# Altium integrated library Renesas Microprocessor SuperH.IntLib: 433 symbols (part 1 of 62)
Pins are listed as number, name and electrical type; pins without a type are passive.

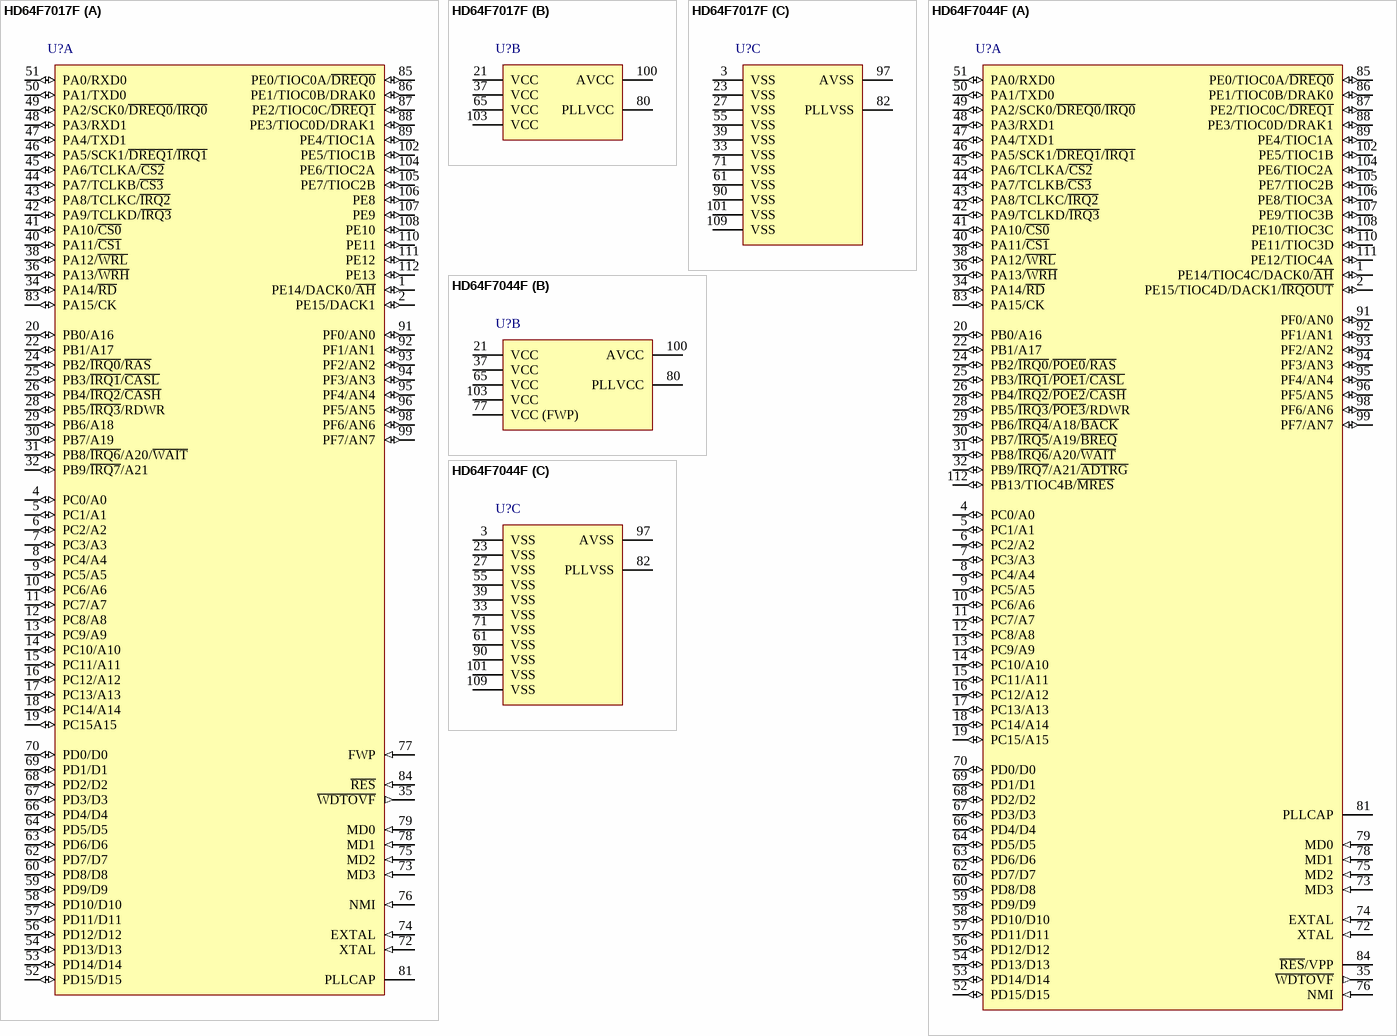
[diagram p0: symbols HD64F7017F to HD64F7044F]

## HD64F7017F
designator U?
32-Bit RISC Microcomputer, SH7010 Series, SH-2 core, 28.7MHz, 128K ROM, 4K(2K) RAM, PRQP0112JA-A (FP-112) Package, -20 to 75°C; Published: 28-Aug-2009; DatasheetVersion: Rev.5.00, Sep-2007; PackageVersion: Sep-2005; PackageReference: PRQP0112JA-A; Publisher: Altium Limited; PackageDescription: 112-Pin Plastic Quad Flat Pack, 20 x 20 x 2.7 mm Body, 0.65 mm Pitch; Code_JEITA: P-QFP112-20x20-0.65; ComponentLink1Description: Manufacturer Link; ComponentLink1URL: http://www.renesas.com/fmwk.jsp?cnt=sh7014_root.jsp&fp=/products/mpumcu/superh_family/sh7010_series/sh7014_group/; ComponentLink2Description: Datasheet; ComponentLink2URL: http://documentation.renesas.com/eng/products/mpumcu/rej09b0398_7014hm.pdf; ComponentLink3Description: Packaging Specification; ComponentLink3URL: http://sg.renesas.com/media/products/common_info/package/pdf/ic/code/prqp0112ja_a.pdf
footprint PRQP0112JA-A_N (QFP, 112-Leads, Body 20x20mm, Pitch 0.65mm, IPC Medium Density)
footprint PRQP0112JA-A_L (QFP, 112-Leads, Body 20x20mm, Pitch 0.65mm, IPC High Density)
footprint PRQP0112JA-A_M (QFP, 112-Leads, Body 20x20mm, Pitch 0.65mm, IPC Low Density)
part A pins: 1 PE14/DACK0/~{AH} (io), 2 PE15/DACK1 (io), 4 PC0/A0 (io), 5 PC1/A1 (io), 6 PC2/A2 (io), 7 PC3/A3 (io), 8 PC4/A4 (io), 9 PC5/A5 (io), 10 PC6/A6 (io), 11 PC7/A7 (io), 12 PC8/A8 (io), 13 PC9/A9 (io), 14 PC10/A10 (io), 15 PC11/A11 (io), 16 PC12/A12 (io), 17 PC13/A13 (io), 18 PC14/A14 (io), 19 PC15A15 (io), 20 PB0/A16 (io), 22 PB1/A17 (io), 24 PB2/~{IRQ0}/~{RAS} (io), 25 PB3/~{IRQ1}/~{CASL} (io), 26 PB4/~{IRQ2}/~{CASH} (io), 28 PB5/~{IRQ3}/RDWR (io), 29 PB6/A18 (io), 30 PB7/A19 (io), 31 PB8/~{IRQ6}/A20/~{WAIT} (io), 32 PB9/~{IRQ7}/A21 (io), 34 PA14/~{RD} (io), 35 ~{WDTOVF} (out), 36 PA13/~{WRH} (io), 38 PA12/~{WRL} (io), 40 PA11/~{CS1} (io), 41 PA10/~{CS0} (io), 42 PA9/TCLKD/~{IRQ3} (io), 43 PA8/TCLKC/~{IRQ2} (io), 44 PA7/TCLKB/~{CS3} (io), 45 PA6/TCLKA/~{CS2} (io), 46 PA5/SCK1/~{DREQ1}/~{IRQ1} (io), 47 PA4/TXD1 (io), 48 PA3/RXD1 (io), 49 PA2/SCK0/~{DREQ0}/~{IRQ0} (io), 50 PA1/TXD0 (io), 51 PA0/RXD0 (io), 52 PD15/D15 (io), 53 PD14/D14 (io), 54 PD13/D13 (io), 56 PD12/D12 (io), 57 PD11/D11 (io), 58 PD10/D10 (io), 59 PD9/D9 (io), 60 PD8/D8 (io), 62 PD7/D7 (io), 63 PD6/D6 (io), 64 PD5/D5 (io), 66 PD4/D4 (io), 67 PD3/D3 (io), 68 PD2/D2 (io), 69 PD1/D1 (io), 70 PD0/D0 (io), 72 XTAL (in), 73 MD3 (in), 74 EXTAL (in), 75 MD2 (in), 76 NMI (in), 77 FWP (in), 78 MD1 (in), 79 MD0 (in), 81 PLLCAP, 83 PA15/CK (io), 84 ~{RES} (in), 85 PE0/TIOC0A/~{DREQ0} (io), 86 PE1/TIOC0B/DRAK0 (io), 87 PE2/TIOC0C/~{DREQ1} (io), 88 PE3/TIOC0D/DRAK1 (io), 89 PE4/TIOC1A (io), 91 PF0/AN0 (io), 92 PF1/AN1 (io), 93 PF2/AN2 (io), 94 PF3/AN3 (io), 95 PF4/AN4 (io), 96 PF5/AN5 (io), 98 PF6/AN6 (io), 99 PF7/AN7 (io), 102 PE5/TIOC1B (io), 104 PE6/TIOC2A (io), 105 PE7/TIOC2B (io), 106 PE8 (io), 107 PE9 (io), 108 PE10 (io), 110 PE11 (io), 111 PE12 (io), 112 PE13 (io)
part B pins: 21 VCC (power), 37 VCC (power), 65 VCC (power), 80 PLLVCC (power), 100 AVCC (power), 103 VCC (power)
part C pins: 3 VSS (power), 23 VSS (power), 27 VSS (power), 33 VSS (power), 39 VSS (power), 55 VSS (power), 61 VSS (power), 71 VSS (power), 82 PLLVSS (power), 90 VSS (power), 97 AVSS (power), 101 VSS (power), 109 VSS (power)

## HD64F7044F
designator U?
32-Bit RISC Microcomputer, SH7040 Series, SH-2 core, 28.7MHz, 256K ROM, 4K(2K) RAM, PRQP0112JA-A (FP-112) Package; Published: 28-Aug-2009; DatasheetVersion: Rev.6.00, May-2003; PackageVersion: Sep-2005; PackageReference: PRQP0112JA-A; Publisher: Altium Limited; PackageDescription: 112-Pin Plastic Quad Flat Pack, 20 x 20 x 2.7 mm Body, 0.65 mm Pitch; Code_JEITA: P-QFP112-20x20-0.65; ComponentLink1Description: Manufacturer Link; ComponentLink1URL: http://www.renesas.com/fmwk.jsp?cnt=sh7040_root.jsp&fp=/products/mpumcu/superh_family/sh7040_series/sh7040_group/; ComponentLink2Description: Datasheet; ComponentLink2URL: http://documentation.renesas.com/eng/products/mpumcu/rej09b0044_sh7040.pdf; ComponentLink3Description: Packaging Specification; ComponentLink3URL: http://sg.renesas.com/media/products/common_info/package/pdf/ic/code/prqp0112ja_a.pdf
footprint PRQP0112JA-A_N (QFP, 112-Leads, Body 20x20mm, Pitch 0.65mm, IPC Medium Density)
footprint PRQP0112JA-A_L (QFP, 112-Leads, Body 20x20mm, Pitch 0.65mm, IPC High Density)
footprint PRQP0112JA-A_M (QFP, 112-Leads, Body 20x20mm, Pitch 0.65mm, IPC Low Density)
part A pins: 1 PE14/TIOC4C/DACK0/~{AH} (io), 2 PE15/TIOC4D/DACK1/~{IRQOUT} (io), 4 PC0/A0 (io), 5 PC1/A1 (io), 6 PC2/A2 (io), 7 PC3/A3 (io), 8 PC4/A4 (io), 9 PC5/A5 (io), 10 PC6/A6 (io), 11 PC7/A7 (io), 12 PC8/A8 (io), 13 PC9/A9 (io), 14 PC10/A10 (io), 15 PC11/A11 (io), 16 PC12/A12 (io), 17 PC13/A13 (io), 18 PC14/A14 (io), 19 PC15/A15 (io), 20 PB0/A16 (io), 22 PB1/A17 (io), 24 PB2/~{IRQ0}/~{POE0}/~{RAS} (io), 25 PB3/~{IRQ1}/~{POE1}/~{CASL} (io), 26 PB4/~{IRQ2}/~{POE2}/~{CASH} (io), 28 PB5/~{IRQ3}/~{POE3}/RDWR (io), 29 PB6/~{IRQ4}/A18/~{BACK} (io), 30 PB7/~{IRQ5}/A19/~{BREQ} (io), 31 PB8/~{IRQ6}/A20/~{WAIT} (io), 32 PB9/~{IRQ7}/A21/~{ADTRG} (io), 34 PA14/~{RD} (io), 35 ~{WDTOVF} (out), 36 PA13/~{WRH} (io), 38 PA12/~{WRL} (io), 40 PA11/~{CS1} (io), 41 PA10/~{CS0} (io), 42 PA9/TCLKD/~{IRQ3} (io), 43 PA8/TCLKC/~{IRQ2} (io), 44 PA7/TCLKB/~{CS3} (io), 45 PA6/TCLKA/~{CS2} (io), 46 PA5/SCK1/~{DREQ1}/~{IRQ1} (io), 47 PA4/TXD1 (io), 48 PA3/RXD1 (io), 49 PA2/SCK0/~{DREQ0}/~{IRQ0} (io), 50 PA1/TXD0 (io), 51 PA0/RXD0 (io), 52 PD15/D15 (io), 53 PD14/D14 (io), 54 PD13/D13 (io), 56 PD12/D12 (io), 57 PD11/D11 (io), 58 PD10/D10 (io), 59 PD9/D9 (io), 60 PD8/D8 (io), 62 PD7/D7 (io), 63 PD6/D6 (io), 64 PD5/D5 (io), 66 PD4/D4 (io), 67 PD3/D3 (io), 68 PD2/D2 (io), 69 PD1/D1 (io), 70 PD0/D0 (io), 72 XTAL (in), 73 MD3 (in), 74 EXTAL (in), 75 MD2 (in), 76 NMI (in), 78 MD1 (in), 79 MD0 (in), 81 PLLCAP, 83 PA15/CK (io), 84 ~{RES}/VPP, 85 PE0/TIOC0A/~{DREQ0} (io), 86 PE1/TIOC0B/DRAK0 (io), 87 PE2/TIOC0C/~{DREQ1} (io), 88 PE3/TIOC0D/DRAK1 (io), 89 PE4/TIOC1A (io), 91 PF0/AN0 (io), 92 PF1/AN1 (io), 93 PF2/AN2 (io), 94 PF3/AN3 (io), 95 PF4/AN4 (io), 96 PF5/AN5 (io), 98 PF6/AN6 (io), 99 PF7/AN7 (io), 102 PE5/TIOC1B (io), 104 PE6/TIOC2A (io), 105 PE7/TIOC2B (io), 106 PE8/TIOC3A (io), 107 PE9/TIOC3B (io), 108 PE10/TIOC3C (io), 110 PE11/TIOC3D (io), 111 PE12/TIOC4A (io), 112 PB13/TIOC4B/~{MRES} (io)
part B pins: 21 VCC (power), 37 VCC (power), 65 VCC (power), 77 VCC (FWP) (power), 80 PLLVCC (power), 100 AVCC (power), 103 VCC (power)
part C pins: 3 VSS (power), 23 VSS (power), 27 VSS (power), 33 VSS (power), 39 VSS (power), 55 VSS (power), 61 VSS (power), 71 VSS (power), 82 PLLVSS (power), 90 VSS (power), 97 AVSS (power), 101 VSS (power), 109 VSS (power)

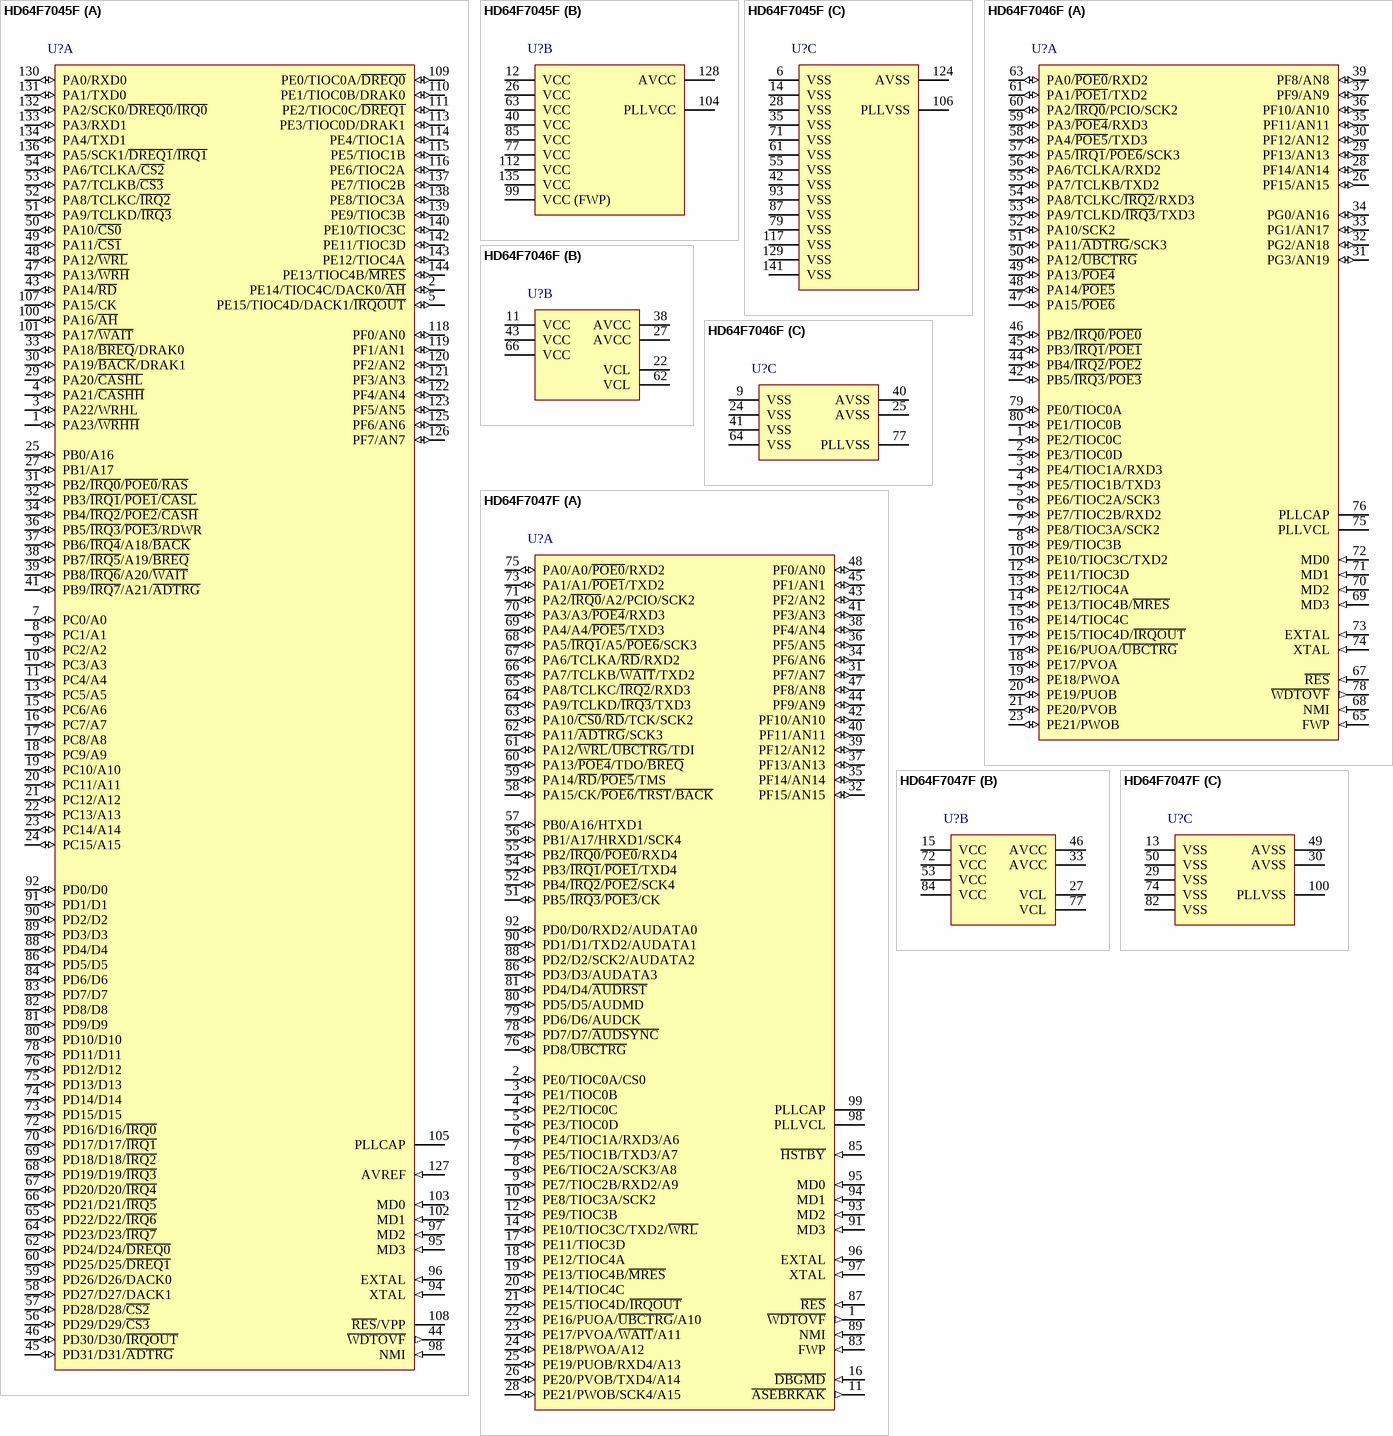
[diagram p1: symbols HD64F7045F to HD64F7047F]

## HD64F7045F
designator U?
32-Bit RISC Microcomputer, SH7040 Series, SH-2 core, 28.7MHz, 256K ROM, 4K(2K) RAM, FP-144 Package; Published: 28-Aug-2009; DatasheetVersion: Rev.6.00, May-2003; PackageVersion: Sep-2005; PackageReference: PRQP0144KB-A; Publisher: Altium Limited; PackageDescription: 144-Pin Plastic Quad Flat Pack, 20 x 20 x 2.7 mm Body, 0.5 mm Pitch; Code_JEITA: P-QFP144-20x20-0.50; ComponentLink1Description: Manufacturer Link; ComponentLink1URL: http://www.renesas.com/fmwk.jsp?cnt=sh7040_root.jsp&fp=/products/mpumcu/superh_family/sh7040_series/sh7040_group/; ComponentLink2Description: Datasheet; ComponentLink2URL: http://documentation.renesas.com/eng/products/mpumcu/rej09b0044_sh7040.pdf; ComponentLink3Description: Packaging Specification; ComponentLink3URL: http://sg.renesas.com/media/products/common_info/package/pdf/ic/code/prqp0144kb_a.pdf
footprint PRQP0144KB-A_N (Shrink QFP, 144-Leads, Body 20x20mm, Pitch 0.5mm, IPC Medium Density)
footprint PRQP0144KB-A_L (Shrink QFP, 144-Leads, Body 20x20mm, Pitch 0.5mm, IPC High Density)
footprint PRQP0144KB-A_M (Shrink QFP, 144-Leads, Body 20x20mm, Pitch 0.5mm, IPC Low Density)
part A pins: 1 PA23/~{WRHH} (io), 2 PE14/TIOC4C/DACK0/~{AH} (io), 3 PA22/WRHL (io), 4 PA21/~{CASHH} (io), 5 PE15/TIOC4D/DACK1/~{IRQOUT} (io), 7 PC0/A0 (io), 8 PC1/A1 (io), 9 PC2/A2 (io), 10 PC3/A3 (io), 11 PC4/A4 (io), 13 PC5/A5 (io), 15 PC6/A6 (io), 16 PC7/A7 (io), 17 PC8/A8 (io), 18 PC9/A9 (io), 19 PC10/A10 (io), 20 PC11/A11 (io), 21 PC12/A12 (io), 22 PC13/A13 (io), 23 PC14/A14 (io), 24 PC15/A15 (io), 25 PB0/A16 (io), 27 PB1/A17 (io), 29 PA20/~{CASHL} (io), 30 PA19/~{BACK}/DRAK1 (io), 31 PB2/~{IRQ0}/~{POE0}/~{RAS} (io), 32 PB3/~{IRQ1}/~{POE1}/~{CASL} (io), 33 PA18/~{BREQ}/DRAK0 (io), 34 PB4/~{IRQ2}/~{POE2}/~{CASH} (io), 36 PB5/~{IRQ3}/~{POE3}/RDWR (io), 37 PB6/~{IRQ4}/A18/~{BACK} (io), 38 PB7/~{IRQ5}/A19/~{BREQ} (io), 39 PB8/~{IRQ6}/A20/~{WAIT} (io), 41 PB9/~{IRQ7}/A21/~{ADTRG} (io), 43 PA14/~{RD} (io), 44 ~{WDTOVF} (out), 45 PD31/D31/~{ADTRG} (io), 46 PD30/D30/~{IRQOUT} (io), 47 PA13/~{WRH} (io), 48 PA12/~{WRL} (io), 49 PA11/~{CS1} (io), 50 PA10/~{CS0} (io), 51 PA9/TCLKD/~{IRQ3} (io), 52 PA8/TCLKC/~{IRQ2} (io), 53 PA7/TCLKB/~{CS3} (io), 54 PA6/TCLKA/~{CS2} (io), 56 PD29/D29/~{CS3} (io), 57 PD28/D28/~{CS2} (io), 58 PD27/D27/DACK1 (io), 59 PD26/D26/DACK0 (io), 60 PD25/D25/~{DREQ1} (io), 62 PD24/D24/~{DREQ0} (io), 64 PD23/D23/~{IRQ7} (io), 65 PD22/D22/~{IRQ6} (io), 66 PD21/D21/~{IRQ5} (io), 67 PD20/D20/~{IRQ4} (io), 68 PD19/D19/~{IRQ3} (io), 69 PD18/D18/~{IRQ2} (io), 70 PD17/D17/~{IRQ1} (io), 72 PD16/D16/~{IRQ0} (io), 73 PD15/D15 (io), 74 PD14/D14 (io), 75 PD13/D13 (io), 76 PD12/D12 (io), 78 PD11/D11 (io), 80 PD10/D10 (io), 81 PD9/D9 (io), 82 PD8/D8 (io), 83 PD7/D7 (io), 84 PD6/D6 (io), 86 PD5/D5 (io), 88 PD4/D4 (io), 89 PD3/D3 (io), 90 PD2/D2 (io), 91 PD1/D1 (io), 92 PD0/D0 (io), 94 XTAL (in), 95 MD3 (in), 96 EXTAL (in), 97 MD2 (in), 98 NMI (in), 100 PA16/~{AH} (io), 101 PA17/~{WAIT} (io), 102 MD1 (in), 103 MD0 (in), 105 PLLCAP, 107 PA15/CK (io), 108 ~{RES}/VPP, 109 PE0/TIOC0A/~{DREQ0} (io), 110 PE1/TIOC0B/DRAK0 (io), 111 PE2/TIOC0C/~{DREQ1} (io), 113 PE3/TIOC0D/DRAK1 (io), 114 PE4/TIOC1A (io), 115 PE5/TIOC1B (io), 116 PE6/TIOC2A (io), 118 PF0/AN0 (io), 119 PF1/AN1 (io), 120 PF2/AN2 (io), 121 PF3/AN3 (io), 122 PF4/AN4 (io), 123 PF5/AN5 (io), 125 PF6/AN6 (io), 126 PF7/AN7 (io), 127 AVREF (in), 130 PA0/RXD0 (io), 131 PA1/TXD0 (io), 132 PA2/SCK0/~{DREQ0}/~{IRQ0} (io), 133 PA3/RXD1 (io), 134 PA4/TXD1 (io), 136 PA5/SCK1/~{DREQ1}/~{IRQ1} (io), 137 PE7/TIOC2B (io), 138 PE8/TIOC3A (io), 139 PE9/TIOC3B (io), 140 PE10/TIOC3C (io), 142 PE11/TIOC3D (io), 143 PE12/TIOC4A (io), 144 PE13/TIOC4B/~{MRES} (io)
part B pins: 12 VCC (power), 26 VCC (power), 40 VCC (power), 63 VCC (power), 77 VCC (power), 85 VCC (power), 99 VCC (FWP) (power), 104 PLLVCC (power), 112 VCC (power), 128 AVCC (power), 135 VCC (power)
part C pins: 6 VSS (power), 14 VSS (power), 28 VSS (power), 35 VSS (power), 42 VSS (power), 55 VSS (power), 61 VSS (power), 71 VSS (power), 79 VSS (power), 87 VSS (power), 93 VSS (power), 106 PLLVSS (power), 117 VSS (power), 124 AVSS (power), 129 VSS (power), 141 VSS (power)

## HD64F7046F
designator U?
32-Bit RISC Microcomputer, SH7046 Series, SH-2 core, 50MHz, 256K ROM, 12K RAM, PRQP0080JD-A (FP-80Q) Package; Published: 28-Aug-2009; DatasheetVersion: Rev.4.00, Dec-2005; PackageVersion: Sep-2005; PackageReference: PRQP0080JD-A; Publisher: Altium Limited; PackageDescription: 80-Pin Plastic Quad Flat Pack, 14 x 14 x 2.7 mm Body, 0.65 mm Pitch; Code_JEITA: P-QFP80-14x14-0.65; Code_IPC: QFP65P1720X1720-80; ComponentLink1Description: Manufacturer Link; ComponentLink1URL: http://www.renesas.com/fmwk.jsp?cnt=sh7046_root.jsp&fp=/products/mpumcu/superh_family/sh7046_series/sh7046_group/; ComponentLink2Description: Datasheet; ComponentLink2URL: http://documentation.renesas.com/eng/products/mpumcu/rej09b0270_7046.pdf; ComponentLink3Description: Packaging Specification; ComponentLink3URL: http://sg.renesas.com/media/products/common_info/package/pdf/ic/code/prqp0080jd_a.pdf
footprint PRQP0080JD-A_N (QFP, 80-Leads, Body 14x14mm, Pitch 0.65mm, IPC Medium Density)
footprint PRQP0080JD-A_L (QFP, 80-Leads, Body 14x14mm, Pitch 0.65mm, IPC High Density)
footprint PRQP0080JD-A_M (QFP, 80-Leads, Body 14x14mm, Pitch 0.65mm, IPC Low Density)
part A pins: 1 PE2/TIOC0C (io), 2 PE3/TIOC0D (io), 3 PE4/TIOC1A/RXD3 (io), 4 PE5/TIOC1B/TXD3 (io), 5 PE6/TIOC2A/SCK3 (io), 6 PE7/TIOC2B/RXD2 (io), 7 PE8/TIOC3A/SCK2 (io), 8 PE9/TIOC3B (io), 10 PE10/TIOC3C/TXD2 (io), 12 PE11/TIOC3D (io), 13 PE12/TIOC4A (io), 14 PE13/TIOC4B/~{MRES} (io), 15 PE14/TIOC4C (io), 16 PE15/TIOC4D/~{IRQOUT} (io), 17 PE16/PUOA/~{UBCTRG} (io), 18 PE17/PVOA (io), 19 PE18/PWOA (io), 20 PE19/PUOB (io), 21 PE20/PVOB (io), 23 PE21/PWOB (io), 26 PF15/AN15 (io), 28 PF14/AN14 (io), 29 PF13/AN13 (io), 30 PF12/AN12 (io), 31 PG3/AN19 (io), 32 PG2/AN18 (io), 33 PG1/AN17 (io), 34 PG0/AN16 (io), 35 PF11/AN11 (io), 36 PF10/AN10 (io), 37 PF9/AN9 (io), 39 PF8/AN8 (io), 42 PB5/~{IRQ3}/~{POE3} (io), 44 PB4/~{IRQ2}/~{POE2} (io), 45 PB3/~{IRQ1}/~{POE1} (io), 46 PB2/~{IRQ0}/~{POE0} (io), 47 PA15/~{POE6} (io), 48 PA14/~{POE5} (io), 49 PA13/~{POE4} (io), 50 PA12/~{UBCTRG} (io), 51 PA11/~{ADTRG}/SCK3 (io), 52 PA10/SCK2 (io), 53 PA9/TCLKD/~{IRQ3}/TXD3 (io), 54 PA8/TCLKC/~{IRQ2}/RXD3 (io), 55 PA7/TCLKB/TXD2 (io), 56 PA6/TCLKA/RXD2 (io), 57 PA5/~{IRQ1}/~{POE6}/SCK3 (io), 58 PA4/~{POE5}/TXD3 (io), 59 PA3/~{POE4}/RXD3 (io), 60 PA2/~{IRQ0}/PCIO/SCK2 (io), 61 PA1/~{POE1}/TXD2 (io), 63 PA0/~{POE0}/RXD2 (io), 65 FWP (in), 67 ~{RES} (in), 68 NMI (in), 69 MD3 (in), 70 MD2 (in), 71 MD1 (in), 72 MD0 (in), 73 EXTAL (in), 74 XTAL (in), 75 PLLVCL, 76 PLLCAP, 78 ~{WDTOVF} (out), 79 PE0/TIOC0A (io), 80 PE1/TIOC0B (io)
part B pins: 11 VCC (power), 22 VCL, 27 AVCC (power), 38 AVCC (power), 43 VCC (power), 62 VCL, 66 VCC (power)
part C pins: 9 VSS (power), 24 VSS (power), 25 AVSS (power), 40 AVSS (power), 41 VSS (power), 64 VSS (power), 77 PLLVSS (power)

## HD64F7047F
designator U?
32-Bit RISC Microcomputer, SH7047 Series, SH-2 core, 50MHz, 256K ROM, 12K RAM, PRQP0100KB-A (FP-100M) Package; Published: 28-Aug-2009; DatasheetVersion: Rev.2.00, Sep-2004; PackageVersion: Sep-2009; PackageReference: PRQP0100KB-A; Publisher: Altium Limited; PackageDescription: 100-Pin Plastic Quad Flat Pack, 14 x 14 x 2.7 mm Body, 0.5 mm Pitch; Code_JEITA: P-QFP100-14x14-0.50; ComponentLink1Description: Manufacturer Link; ComponentLink1URL: http://www.renesas.com/fmwk.jsp?cnt=sh7047_root.jsp&fp=/products/mpumcu/superh_family/sh7047_series/sh7047_group/; ComponentLink2Description: Datasheet; ComponentLink2URL: http://documentation.renesas.com/eng/products/mpumcu/rej09b0020_sh7047.pdf; ComponentLink3Description: Packaging Specification; ComponentLink3URL: http://sg.renesas.com/media/products/common_info/package/pdf/ic/code/prqp0100kb_a.pdf
footprint PRQP0100KB-A_N (Shrink QFP, 100-Leads, Body 14x14mm, Pitch 0.5mm, IPC Medium Density)
footprint PRQP0100KB-A_L (Shrink QFP, 100-Leads, Body 14x14mm, Pitch 0.5mm, IPC High Density)
footprint PRQP0100KB-A_M (Shrink QFP, 100-Leads, Body 14x14mm, Pitch 0.5mm, IPC Low Density)
part A pins: 1 ~{WDTOVF} (out), 2 PE0/TIOC0A/CS0 (io), 3 PE1/TIOC0B (io), 4 PE2/TIOC0C (io), 5 PE3/TIOC0D (io), 6 PE4/TIOC1A/RXD3/A6 (io), 7 PE5/TIOC1B/TXD3/A7 (io), 8 PE6/TIOC2A/SCK3/A8 (io), 9 PE7/TIOC2B/RXD2/A9 (io), 10 PE8/TIOC3A/SCK2 (io), 11 ~{ASEBRKAK} (out), 12 PE9/TIOC3B (io), 14 PE10/TIOC3C/TXD2/~{WRL} (io), 16 ~{DBGMD} (in), 17 PE11/TIOC3D (io), 18 PE12/TIOC4A (io), 19 PE13/TIOC4B/~{MRES} (io), 20 PE14/TIOC4C (io), 21 PE15/TIOC4D/~{IRQOUT} (io), 22 PE16/PUOA/~{UBCTRG}/A10 (io), 23 PE17/PVOA/~{WAIT}/A11 (io), 24 PE18/PWOA/A12 (io), 25 PE19/PUOB/RXD4/A13 (io), 26 PE20/PVOB/TXD4/A14 (io), 28 PE21/PWOB/SCK4/A15 (io), 31 PF7/AN7 (io), 32 PF15/AN15 (io), 34 PF6/AN6 (io), 35 PF14/AN14 (io), 36 PF5/AN5 (io), 37 PF13/AN13 (io), 38 PF4/AN4 (io), 39 PF12/AN12 (io), 40 PF11/AN11 (io), 41 PF3/AN3 (io), 42 PF10/AN10 (io), 43 PF2/AN2 (io), 44 PF9/AN9 (io), 45 PF1/AN1 (io), 47 PF8/AN8 (io), 48 PF0/AN0 (io), 51 PB5/~{IRQ3}/~{POE3}/CK (io), 52 PB4/~{IRQ2}/~{POE2}/SCK4 (io), 54 PB3/~{IRQ1}/~{POE1}/TXD4 (io), 55 PB2/~{IRQ0}/~{POE0}/RXD4 (io), 56 PB1/A17/HRXD1/SCK4 (io), 57 PB0/A16/HTXD1 (io), 58 PA15/CK/~{POE6}/~{TRST}/~{BACK} (io), 59 PA14/~{RD}/~{POE5}/TMS (io), 60 PA13/~{POE4}/TDO/~{BREQ} (io), 61 PA12/~{WRL}/~{UBCTRG}/TDI (io), 62 PA11/~{ADTRG}/SCK3 (io), 63 PA10/~{CS0}/~{RD}/TCK/SCK2 (io), 64 PA9/TCLKD/~{IRQ3}/TXD3 (io), 65 PA8/TCLKC/~{IRQ2}/RXD3 (io), 66 PA7/TCLKB/~{WAIT}/TXD2 (io), 67 PA6/TCLKA/~{RD}/RXD2 (io), 68 PA5/~{IRQ1}/A5/~{POE6}/SCK3 (io), 69 PA4/A4/~{POE5}/TXD3 (io), 70 PA3/A3/~{POE4}/RXD3 (io), 71 PA2/~{IRQ0}/A2/PCIO/SCK2 (io), 73 PA1/A1/~{POE1}/TXD2 (io), 75 PA0/A0/~{POE0}/RXD2 (io), 76 PD8/~{UBCTRG} (io), 78 PD7/D7/~{AUDSYNC} (io), 79 PD6/D6/AUDCK (io), 80 PD5/D5/AUDMD (io), 81 PD4/D4/~{AUDRST} (io), 83 FWP (in), 85 ~{HSTBY} (in), 86 PD3/D3/AUDATA3 (io), 87 ~{RES} (in), 88 PD2/D2/SCK2/AUDATA2 (io), 89 NMI (in), 90 PD1/D1/TXD2/AUDATA1 (io), 91 MD3 (in), 92 PD0/D0/RXD2/AUDATA0 (io), 93 MD2 (in), 94 MD1 (in), 95 MD0 (in), 96 EXTAL (in), 97 XTAL (in), 98 PLLVCL, 99 PLLCAP
part B pins: 15 VCC (power), 27 VCL, 33 AVCC (power), 46 AVCC (power), 53 VCC (power), 72 VCC (power), 77 VCL, 84 VCC (power)
part C pins: 13 VSS (power), 29 VSS (power), 30 AVSS (power), 49 AVSS (power), 50 VSS (power), 74 VSS (power), 82 VSS (power), 100 PLLVSS (power)

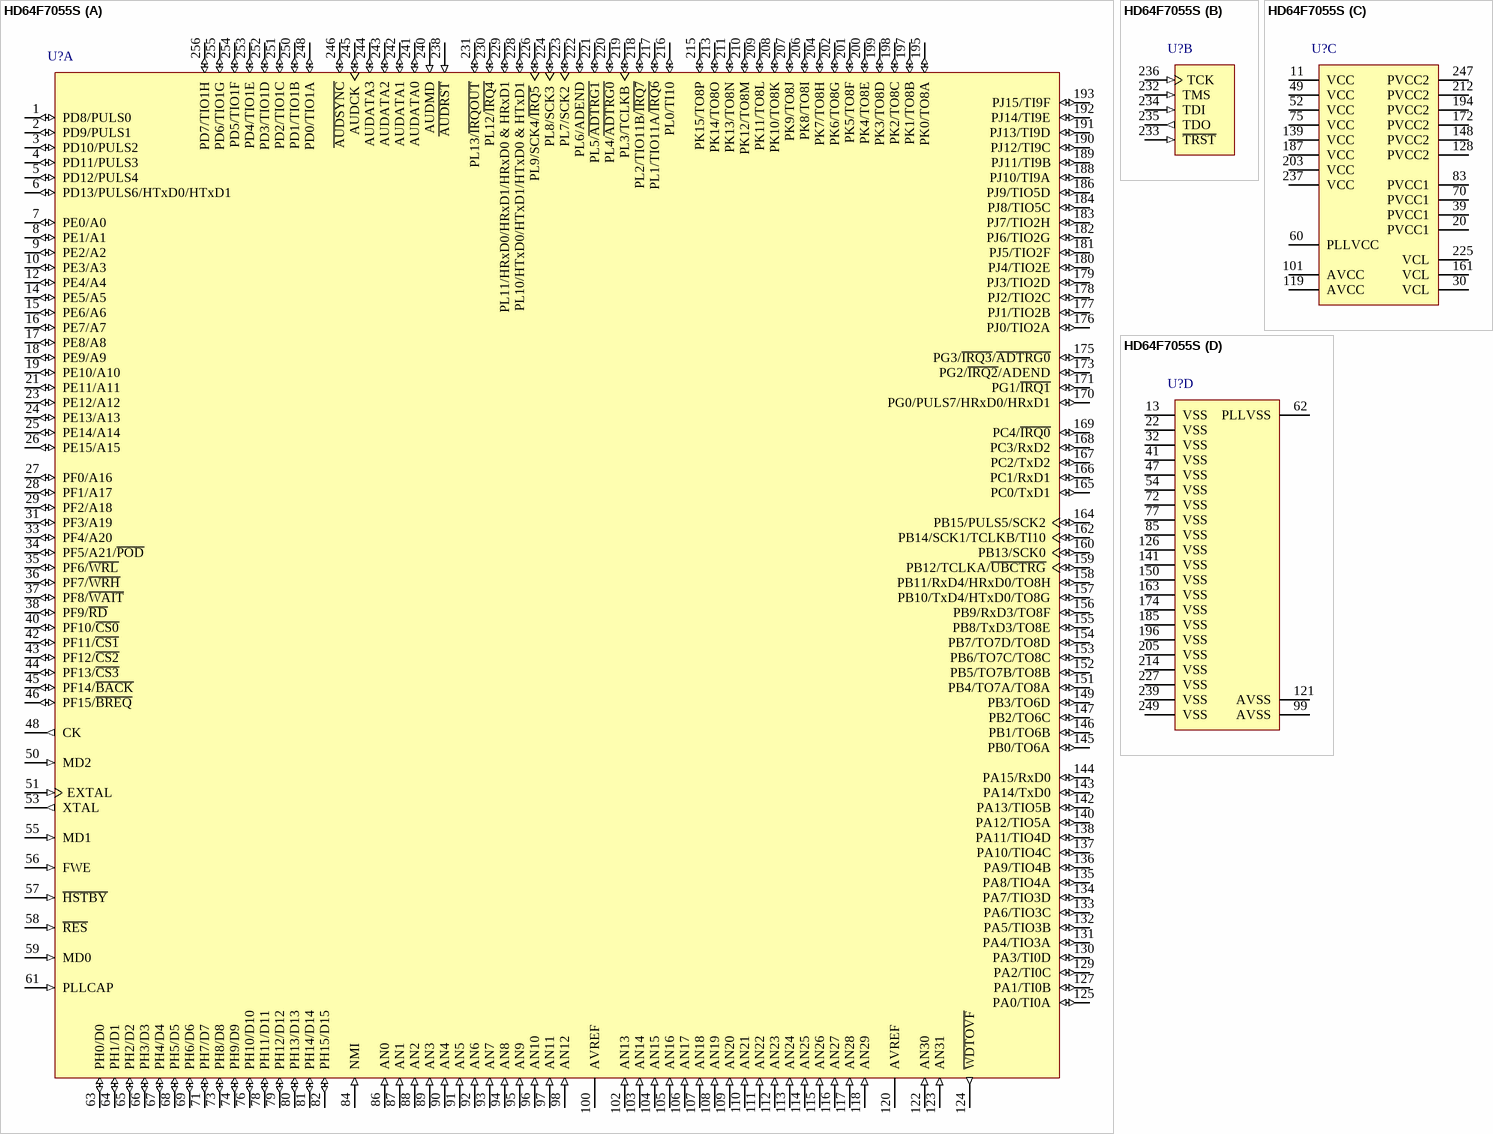
[diagram p2: symbol HD64F7055S]

## HD64F7055S
designator U?
32-Bit RISC Microcomputer, SH7050 Series, SH-2E core, 40MHz, 512K ROM, 32K RAM, 256-pin PQFP, -40 to 125°C; Published: 28-Aug-2009; DatasheetVersion: Rev.2.00, Jul-2003; PackageVersion: Sep-2005; PackageReference: PRQP0256KB-A; Publisher: Altium Limited; PackageDescription: 256-Pin Plastic Quad Flat Pack, 40 x 28 x 3.2 mm Body, 0.5 mm Pitch; Code_JEITA: P-QFP256-28x40-0.50; ComponentLink1Description: Manufacturer Link; ComponentLink1URL: http://www.renesas.com/fmwk.jsp?cnt=sh7055_root.jsp&fp=/products/mpumcu/superh_family/sh7050_series/sh7055_group/; ComponentLink2Description: Datasheet; ComponentLink2URL: http://documentation.renesas.com/eng/products/mpumcu/rej09b0045_sh7055s.pdf; ComponentLink3Description: Packaging Specification; ComponentLink3URL: http://sg.renesas.com/media/products/common_info/package/pdf/ic/code/prqp0256kb_a.pdf
footprint PRQP0256KB-A_N (Shrink QFP, 256-Leads, Body 40x28 mm, Pitch 0.5mm, IPC Medium Density)
footprint PRQP0256KB-A_L (Shrink QFP, 256-Leads, Body 40x28 mm, Pitch 0.5mm, IPC High Density)
footprint PRQP0256KB-A_M (Shrink QFP, 256-Leads, Body 40x28 mm, Pitch 0.5mm, IPC Low Density)
part A pins: 1 PD8/PULS0 (io), 2 PD9/PULS1 (io), 3 PD10/PULS2 (io), 4 PD11/PULS3 (io), 5 PD12/PULS4 (io), 6 PD13/PULS6/HTxD0/HTxD1 (io), 7 PE0/A0 (io), 8 PE1/A1 (io), 9 PE2/A2 (io), 10 PE3/A3 (io), 12 PE4/A4 (io), 14 PE5/A5 (io), 15 PE6/A6 (io), 16 PE7/A7 (io), 17 PE8/A8 (io), 18 PE9/A9 (io), 19 PE10/A10 (io), 21 PE11/A11 (io), 23 PE12/A12 (io), 24 PE13/A13 (io), 25 PE14/A14 (io), 26 PE15/A15 (io), 27 PF0/A16 (io), 28 PF1/A17 (io), 29 PF2/A18 (io), 31 PF3/A19 (io), 33 PF4/A20 (io), 34 PF5/A21/~{POD} (io), 35 PF6/~{WRL} (io), 36 PF7/~{WRH} (io), 37 PF8/~{WAIT} (io), 38 PF9/~{RD} (io), 40 PF10/~{CS0} (io), 42 PF11/~{CS1} (io), 43 PF12/~{CS2} (io), 44 PF13/~{CS3} (io), 45 PF14/~{BACK} (io), 46 PF15/~{BREQ} (io), 48 CK (out), 50 MD2 (in), 51 EXTAL (in), 53 XTAL (out), 55 MD1 (in), 56 FWE (in), 57 ~{HSTBY} (in), 58 ~{RES} (in), 59 MD0 (in), 61 PLLCAP (in), 63 PH0/D0 (io), 64 PH1/D1 (io), 65 PH2/D2 (io), 66 PH3/D3 (io), 67 PH4/D4 (io), 68 PH5/D5 (io), 69 PH6/D6 (io), 71 PH7/D7 (io), 73 PH8/D8 (io), 74 PH9/D9 (io), 76 PH10/D10 (io), 78 PH11/D11 (io), 79 PH12/D12 (io), 80 PH13/D13 (io), 81 PH14/D14 (io), 82 PH15/D15 (io), 84 NMI (in), 86 AN0 (in), 87 AN1 (in), 88 AN2 (in), 89 AN3 (in), 90 AN4 (in), 91 AN5 (in), 92 AN6 (in), 93 AN7 (in), 94 AN8 (in), 95 AN9 (in), 96 AN10 (in), 97 AN11 (in), 98 AN12 (in), 100 AVREF (power), 102 AN13 (in), 103 AN14 (in), 104 AN15 (in), 105 AN16 (in), 106 AN17 (in), 107 AN18 (in), 108 AN19 (in), 109 AN20 (in), 110 AN21 (in), 111 AN22 (in), 112 AN23 (in), 113 AN24 (in), 114 AN25 (in), 115 AN26 (in), 116 AN27 (in), 117 AN28 (in), 118 AN29 (in), 120 AVREF (power), 122 AN30 (in), 123 AN31 (in), 124 ~{WDTOVF} (out), 125 PA0/TI0A (io), 127 PA1/TI0B (io), 129 PA2/TI0C (io), 130 PA3/TI0D (io), 131 PA4/TIO3A (io), 132 PA5/TIO3B (io), 133 PA6/TIO3C (io), 134 PA7/TIO3D (io), 135 PA8/TIO4A (io), 136 PA9/TIO4B (io), 137 PA10/TIO4C (io), 138 PA11/TIO4D (io), 140 PA12/TIO5A (io), 142 PA13/TIO5B (io), 143 PA14/TxD0 (io), 144 PA15/RxD0 (io), 145 PB0/TO6A (io), 146 PB1/TO6B (io), 147 PB2/TO6C (io), 149 PB3/TO6D (io), 151 PB4/TO7A/TO8A (io), 152 PB5/TO7B/TO8B (io), 153 PB6/TO7C/TO8C (io), 154 PB7/TO7D/TO8D (io), 155 PB8/TxD3/TO8E (io), 156 PB9/RxD3/TO8F (io), 157 PB10/TxD4/HTxD0/TO8G (io), 158 PB11/RxD4/HRxD0/TO8H (io), 159 PB12/TCLKA/~{UBCTRG} (io), 160 PB13/SCK0 (io), 162 PB14/SCK1/TCLKB/TI10 (io), 164 PB15/PULS5/SCK2 (io), 165 PC0/TxD1 (io), 166 PC1/RxD1 (io), 167 PC2/TxD2 (io), 168 PC3/RxD2 (io), 169 PC4/~{IRQ0} (io), 170 PG0/PULS7/HRxD0/HRxD1 (io), 171 PG1/~{IRQ1} (io), 173 PG2/~{IRQ2}/ADEND (io), 175 PG3/~{IRQ3}/~{ADTRG0} (io), 176 PJ0/TIO2A (io), 177 PJ1/TIO2B (io), 178 PJ2/TIO2C (io), 179 PJ3/TIO2D (io), 180 PJ4/TIO2E (io), 181 PJ5/TIO2F (io), 182 PJ6/TIO2G (io), 183 PJ7/TIO2H (io), 184 PJ8/TIO5C (io), 186 PJ9/TIO5D (io), 188 PJ10/TI9A (io), 189 PJ11/TI9B (io), 190 PJ12/TI9C (io), 191 PJ13/TI9D (io), 192 PJ14/TI9E (io), 193 PJ15/TI9F (io), 195 PK0/TO8A (io), 197 PK1/TO8B (io), 198 PK2/TO8C (io), 199 PK3/TO8D (io), 200 PK4/TO8E (io), 201 PK5/TO8F (io), 202 PK6/TO8G (io), 204 PK7/TO8H (io), 206 PK8/TO8I (io), 207 PK9/TO8J (io), 208 PK10/TO8K (io), 209 PK11/TO8L (io), 210 PK12/TO8M (io), 211 PK13/TO8N (io), 213 PK14/TO8O (io), 215 PK15/TO8P (io), 216 PL0/TI10 (io), 217 PL1/TIO11A/~{IRQ6} (io), 218 PL2/TIO11B/~{IRQ7} (io), 219 PL3/TCLKB (io), 220 PL4/~{ADTRG0} (io), 221 PL5/~{ADTRG1} (io), 222 PL6/ADEND (io), 223 PL7/SCK2 (io), 224 PL8/SCK3 (io), 226 PL9/SCK4/~{IRQ5} (io), 228 PL10/HTxD0/HTxD1/HTxD0 & HTxD1 (io), 229 PL11/HRxD0/HRxD1/HRxD0 & HRxD1 (io), 230 PL12/~{IRQ4} (io), 231 PL13/~{IRQOUT} (io), 238 ~{AUDRST} (in), 240 AUDMD (in), 241 AUDATA0 (io), 242 AUDATA1 (io), 243 AUDATA2 (io), 244 AUDATA3 (io), 245 AUDCK (io), 246 ~{AUDSYNC} (io), 248 PD0/TIO1A (io), 250 PD1/TIO1B (io), 251 PD2/TIO1C (io), 252 PD3/TIO1D (io), 253 PD4/TIO1E (io), 254 PD5/TIO1F (io), 255 PD6/TIO1G (io), 256 PD7/TIO1H (io)
part B pins: 232 TMS (in), 233 ~{TRST} (in), 234 TDI (in), 235 TDO (out), 236 TCK (in)
part C pins: 11 VCC (power), 20 PVCC1 (power), 30 VCL (power), 39 PVCC1 (power), 49 VCC (power), 52 VCC (power), 60 PLLVCC (power), 70 PVCC1 (power), 75 VCC (power), 83 PVCC1 (power), 101 AVCC (power), 119 AVCC (power), 128 PVCC2 (power), 139 VCC (power), 148 PVCC2 (power), 161 VCL (power), 172 PVCC2 (power), 187 VCC (power), 194 PVCC2 (power), 203 VCC (power), 212 PVCC2 (power), 225 VCL (power), 237 VCC (power), 247 PVCC2 (power)
part D pins: 13 VSS (power), 22 VSS (power), 32 VSS (power), 41 VSS (power), 47 VSS (power), 54 VSS (power), 62 PLLVSS (power), 72 VSS (power), 77 VSS (power), 85 VSS (power), 99 AVSS (power), 121 AVSS (power), 126 VSS (power), 141 VSS (power), 150 VSS (power), 163 VSS (power), 174 VSS (power), 185 VSS (power), 196 VSS (power), 205 VSS (power), 214 VSS (power), 227 VSS (power), 239 VSS (power), 249 VSS (power)

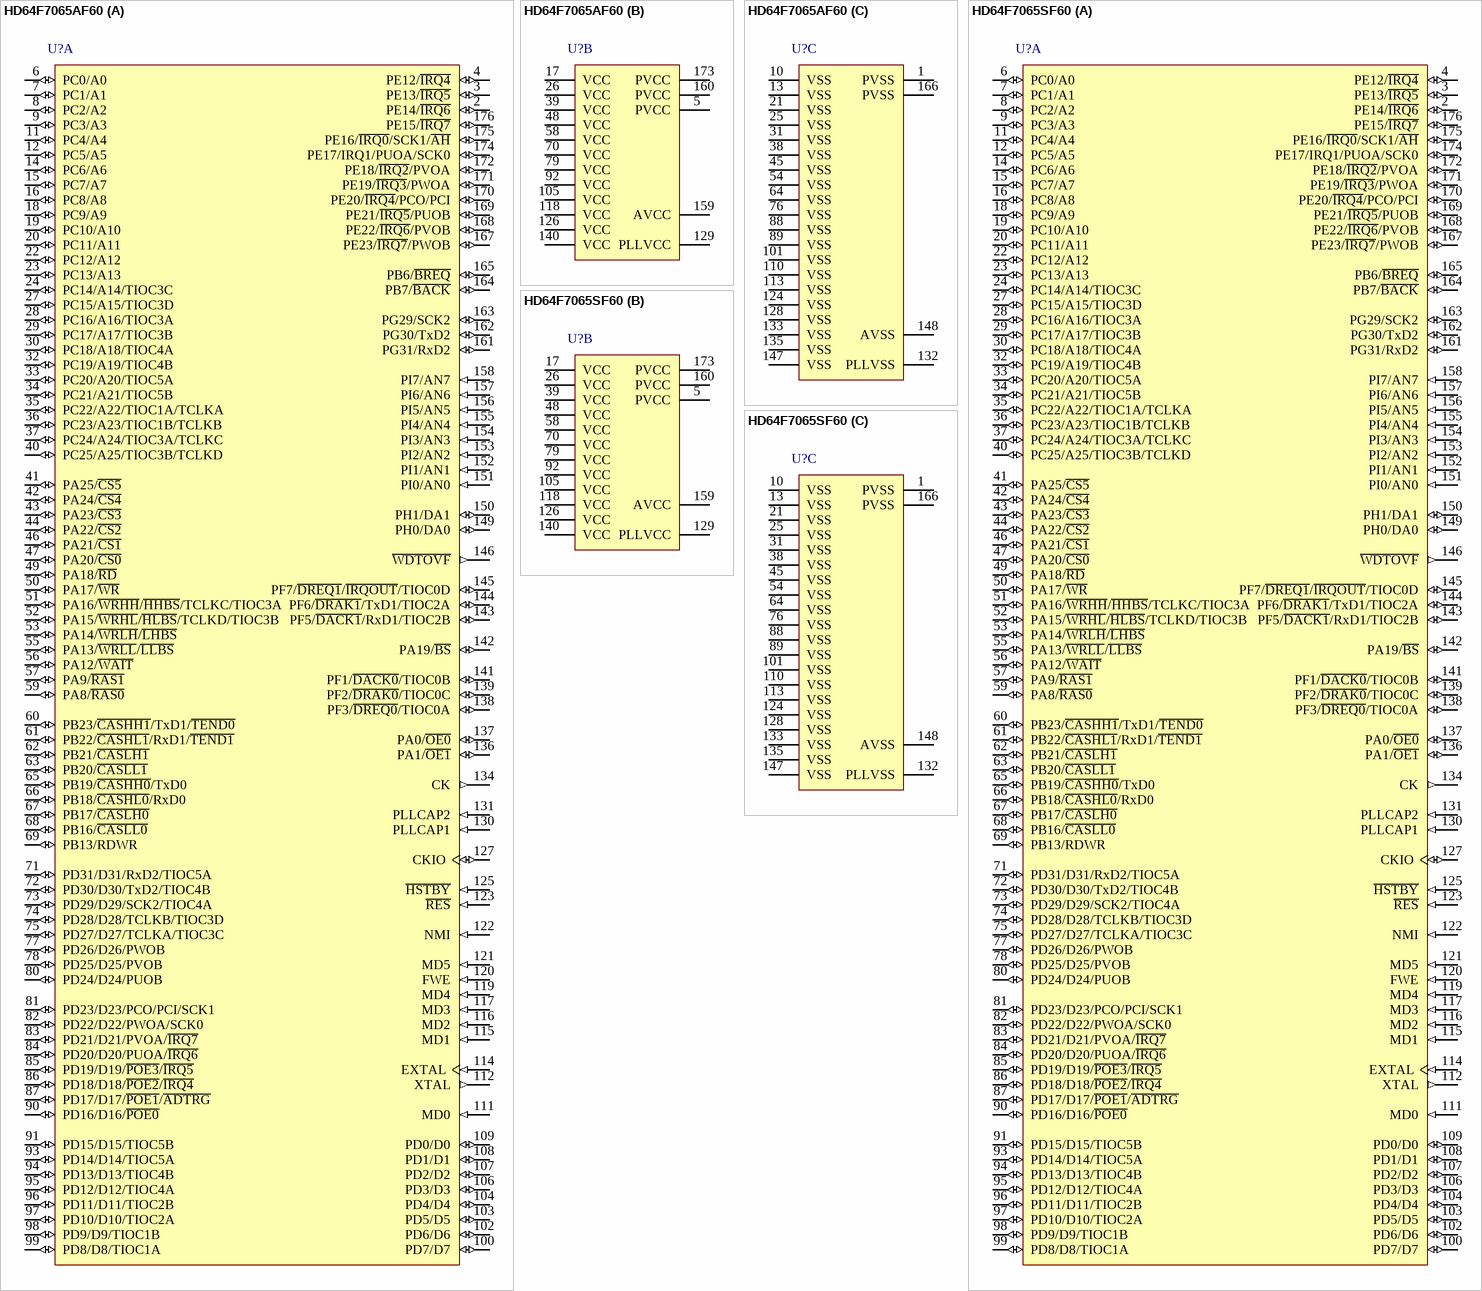
[diagram p3: symbols HD64F7065AF60 to HD64F7065SF60]

## HD64F7065AF60
designator U?
32-Bit RISC Microcomputer, SH7060 Series, SH2-DSP core, 60MHz, 256K ROM, 8K RAM, PLQP0176KC-A (FP-176) Package, -20 to 75°C; Published: 28-Aug-2009; DatasheetVersion: Rev.5.00, Sep-2006; PackageVersion: Sep-2005; PackageReference: PLQP0176KC-A; Publisher: Altium Limited; PackageDescription: 176-Pin Plastic Low Profile QFP, 24 x 24 x 1.4 mm Body, 0.5 mm Pitch; Supplier 1: Digi-Key; Supplier Part Number 1: HD64F7065AF60-ND; Code_JEITA: P-LQFP176-24x24-0.50; ComponentLink1Description: Manufacturer Link; ComponentLink1URL: http://www.renesas.com/fmwk.jsp?cnt=sh7065_root.jsp&fp=/products/mpumcu/superh_family/sh7060_series/sh7065_group/; ComponentLink2Description: Datasheet; ComponentLink2URL: http://documentation.renesas.com/eng/products/mpumcu/rej09b0332_sh7065hm.pdf; ComponentLink3Description: Packaging Specification; ComponentLink3URL: http://sg.renesas.com/media/products/common_info/package/pdf/ic/code/plqp0176kc_a.pdf
footprint PLQP0176KC-A_N (Shrink QFP, 176-Leads, Body 24x24mm, Pitch 0.5mm, IPC Medium Density)
footprint PLQP0176KC-A_L (Shrink QFP, 176-Leads, Body 24x24mm, Pitch 0.5mm, IPC High Density)
footprint PLQP0176KC-A_M (Shrink QFP, 176-Leads, Body 24x24mm, Pitch 0.5mm, IPC Low Density)
part A pins: 2 PE14/~{IRQ6} (io), 3 PE13/~{IRQ5} (io), 4 PE12/~{IRQ4} (io), 6 PC0/A0 (io), 7 PC1/A1 (io), 8 PC2/A2 (io), 9 PC3/A3 (io), 11 PC4/A4 (io), 12 PC5/A5 (io), 14 PC6/A6 (io), 15 PC7/A7 (io), 16 PC8/A8 (io), 18 PC9/A9 (io), 19 PC10/A10 (io), 20 PC11/A11 (io), 22 PC12/A12 (io), 23 PC13/A13 (io), 24 PC14/A14/TIOC3C (io), 27 PC15/A15/TIOC3D (io), 28 PC16/A16/TIOC3A (io), 29 PC17/A17/TIOC3B (io), 30 PC18/A18/TIOC4A (io), 32 PC19/A19/TIOC4B (io), 33 PC20/A20/TIOC5A (io), 34 PC21/A21/TIOC5B (io), 35 PC22/A22/TIOC1A/TCLKA (io), 36 PC23/A23/TIOC1B/TCLKB (io), 37 PC24/A24/TIOC3A/TCLKC (io), 40 PC25/A25/TIOC3B/TCLKD (io), 41 PA25/~{CS5} (io), 42 PA24/~{CS4} (io), 43 PA23/~{CS3} (io), 44 PA22/~{CS2} (io), 46 PA21/~{CS1} (io), 47 PA20/~{CS0} (io), 49 PA18/~{RD} (io), 50 PA17/~{WR} (io), 51 PA16/~{WRHH}/~{HHBS}/TCLKC/TIOC3A (io), 52 PA15/~{WRHL}/~{HLBS}/TCLKD/TIOC3B (io), 53 PA14/~{WRLH}/~{LHBS} (io), 55 PA13/~{WRLL}/~{LLBS} (io), 56 PA12/~{WAIT} (io), 57 PA9/~{RAS1} (io), 59 PA8/~{RAS0} (io), 60 PB23/~{CASHH1}/TxD1/~{TEND0} (io), 61 PB22/~{CASHL1}/RxD1/~{TEND1} (io), 62 PB21/~{CASLH1} (io), 63 PB20/~{CASLL1} (io), 65 PB19/~{CASHH0}/TxD0 (io), 66 PB18/~{CASHL0}/RxD0 (io), 67 PB17/~{CASLH0} (io), 68 PB16/~{CASLL0} (io), 69 PB13/RDWR (io), 71 PD31/D31/RxD2/TIOC5A (io), 72 PD30/D30/TxD2/TIOC4B (io), 73 PD29/D29/SCK2/TIOC4A (io), 74 PD28/D28/TCLKB/TIOC3D (io), 75 PD27/D27/TCLKA/TIOC3C (io), 77 PD26/D26/PWOB (io), 78 PD25/D25/PVOB (io), 80 PD24/D24/PUOB (io), 81 PD23/D23/PCO/PCI/SCK1 (io), 82 PD22/D22/PWOA/SCK0 (io), 83 PD21/D21/PVOA/~{IRQ7} (io), 84 PD20/D20/PUOA/~{IRQ6} (io), 85 PD19/D19/~{POE3}/~{IRQ5} (io), 86 PD18/D18/~{POE2}/~{IRQ4} (io), 87 PD17/D17/~{POE1}/~{ADTRG} (io), 90 PD16/D16/~{POE0} (io), 91 PD15/D15/TIOC5B (io), 93 PD14/D14/TIOC5A (io), 94 PD13/D13/TIOC4B (io), 95 PD12/D12/TIOC4A (io), 96 PD11/D11/TIOC2B (io), 97 PD10/D10/TIOC2A (io), 98 PD9/D9/TIOC1B (io), 99 PD8/D8/TIOC1A (io), 100 PD7/D7 (io), 102 PD6/D6 (io), 103 PD5/D5 (io), 104 PD4/D4 (io), 106 PD3/D3 (io), 107 PD2/D2 (io), 108 PD1/D1 (io), 109 PD0/D0 (io), 111 MD0 (in), 112 XTAL (out), 114 EXTAL (in), 115 MD1 (in), 116 MD2 (in), 117 MD3 (in), 119 MD4 (in), 120 FWE (in), 121 MD5 (in), 122 NMI (in), 123 ~{RES} (in), 125 ~{HSTBY} (in), 127 CKIO (io), 130 PLLCAP1 (in), 131 PLLCAP2 (in), 134 CK (out), 136 PA1/~{OE1} (io), 137 PA0/~{OE0} (io), 138 PF3/~{DREQ0}/TIOC0A (io), 139 PF2/~{DRAK0}/TIOC0C (io), 141 PF1/~{DACK0}/TIOC0B (io), 142 PA19/~{BS} (io), 143 PF5/~{DACK1}/RxD1/TIOC2B (io), 144 PF6/~{DRAK1}/TxD1/TIOC2A (io), 145 PF7/~{DREQ1}/~{IRQOUT}/TIOC0D (io), 146 ~{WDTOVF} (out), 149 PH0/DA0 (io), 150 PH1/DA1 (io), 151 PI0/AN0 (in), 152 PI1/AN1 (in), 153 PI2/AN2 (in), 154 PI3/AN3 (in), 155 PI4/AN4 (in), 156 PI5/AN5 (in), 157 PI6/AN6 (in), 158 PI7/AN7 (in), 161 PG31/RxD2 (io), 162 PG30/TxD2 (io), 163 PG29/SCK2 (io), 164 PB7/~{BACK} (io), 165 PB6/~{BREQ} (io), 167 PE23/~{IRQ7}/PWOB (io), 168 PE22/~{IRQ6}/PVOB (io), 169 PE21/~{IRQ5}/PUOB (io), 170 PE20/~{IRQ4}/PCO/PCI (io), 171 PE19/~{IRQ3}/PWOA (io), 172 PE18/~{IRQ2}/PVOA (io), 174 PE17/IRQ1/PUOA/SCK0 (io), 175 PE16/~{IRQ0}/SCK1/~{AH} (io), 176 PE15/~{IRQ7} (io)
part B pins: 5 PVCC (power), 17 VCC (power), 26 VCC (power), 39 VCC (power), 48 VCC (power), 58 VCC (power), 70 VCC (power), 79 VCC (power), 92 VCC (power), 105 VCC (power), 118 VCC (power), 126 VCC (power), 129 PLLVCC (power), 140 VCC (power), 159 AVCC (power), 160 PVCC (power), 173 PVCC (power)
part C pins: 1 PVSS (power), 10 VSS (power), 13 VSS (power), 21 VSS (power), 25 VSS (power), 31 VSS (power), 38 VSS (power), 45 VSS (power), 54 VSS (power), 64 VSS (power), 76 VSS (power), 88 VSS (power), 89 VSS (power), 101 VSS (power), 110 VSS (power), 113 VSS (power), 124 VSS (power), 128 VSS (power), 132 PLLVSS (power), 133 VSS (power), 135 VSS (power), 147 VSS (power), 148 AVSS (power), 166 PVSS (power)

## HD64F7065SF60
designator U?
32-Bit RISC Microcomputer, SH7060 Series, SH2-DSP core, 60MHz, 256K ROM, 8K RAM, PLQP0176KC-A (FP-176) Package, -20 to 75°C; Published: 28-Aug-2009; DatasheetVersion: Rev.5.00, Sep-2006; PackageVersion: Sep-2005; PackageReference: PLQP0176KC-A; Publisher: Altium Limited; PackageDescription: 176-Pin Plastic Low Profile QFP, 24 x 24 x 1.4 mm Body, 0.5 mm Pitch; Code_JEITA: P-LQFP176-24x24-0.50; ComponentLink1Description: Manufacturer Link; ComponentLink1URL: http://www.renesas.com/fmwk.jsp?cnt=sh7065_root.jsp&fp=/products/mpumcu/superh_family/sh7060_series/sh7065_group/; ComponentLink2Description: Datasheet; ComponentLink2URL: http://documentation.renesas.com/eng/products/mpumcu/rej09b0332_sh7065hm.pdf; ComponentLink3Description: Packaging Specification; ComponentLink3URL: http://sg.renesas.com/media/products/common_info/package/pdf/ic/code/plqp0176kc_a.pdf
footprint PLQP0176KC-A_N (Shrink QFP, 176-Leads, Body 24x24mm, Pitch 0.5mm, IPC Medium Density)
footprint PLQP0176KC-A_L (Shrink QFP, 176-Leads, Body 24x24mm, Pitch 0.5mm, IPC High Density)
footprint PLQP0176KC-A_M (Shrink QFP, 176-Leads, Body 24x24mm, Pitch 0.5mm, IPC Low Density)
part A pins: 2 PE14/~{IRQ6} (io), 3 PE13/~{IRQ5} (io), 4 PE12/~{IRQ4} (io), 6 PC0/A0 (io), 7 PC1/A1 (io), 8 PC2/A2 (io), 9 PC3/A3 (io), 11 PC4/A4 (io), 12 PC5/A5 (io), 14 PC6/A6 (io), 15 PC7/A7 (io), 16 PC8/A8 (io), 18 PC9/A9 (io), 19 PC10/A10 (io), 20 PC11/A11 (io), 22 PC12/A12 (io), 23 PC13/A13 (io), 24 PC14/A14/TIOC3C (io), 27 PC15/A15/TIOC3D (io), 28 PC16/A16/TIOC3A (io), 29 PC17/A17/TIOC3B (io), 30 PC18/A18/TIOC4A (io), 32 PC19/A19/TIOC4B (io), 33 PC20/A20/TIOC5A (io), 34 PC21/A21/TIOC5B (io), 35 PC22/A22/TIOC1A/TCLKA (io), 36 PC23/A23/TIOC1B/TCLKB (io), 37 PC24/A24/TIOC3A/TCLKC (io), 40 PC25/A25/TIOC3B/TCLKD (io), 41 PA25/~{CS5} (io), 42 PA24/~{CS4} (io), 43 PA23/~{CS3} (io), 44 PA22/~{CS2} (io), 46 PA21/~{CS1} (io), 47 PA20/~{CS0} (io), 49 PA18/~{RD} (io), 50 PA17/~{WR} (io), 51 PA16/~{WRHH}/~{HHBS}/TCLKC/TIOC3A (io), 52 PA15/~{WRHL}/~{HLBS}/TCLKD/TIOC3B (io), 53 PA14/~{WRLH}/~{LHBS} (io), 55 PA13/~{WRLL}/~{LLBS} (io), 56 PA12/~{WAIT} (io), 57 PA9/~{RAS1} (io), 59 PA8/~{RAS0} (io), 60 PB23/~{CASHH1}/TxD1/~{TEND0} (io), 61 PB22/~{CASHL1}/RxD1/~{TEND1} (io), 62 PB21/~{CASLH1} (io), 63 PB20/~{CASLL1} (io), 65 PB19/~{CASHH0}/TxD0 (io), 66 PB18/~{CASHL0}/RxD0 (io), 67 PB17/~{CASLH0} (io), 68 PB16/~{CASLL0} (io), 69 PB13/RDWR (io), 71 PD31/D31/RxD2/TIOC5A (io), 72 PD30/D30/TxD2/TIOC4B (io), 73 PD29/D29/SCK2/TIOC4A (io), 74 PD28/D28/TCLKB/TIOC3D (io), 75 PD27/D27/TCLKA/TIOC3C (io), 77 PD26/D26/PWOB (io), 78 PD25/D25/PVOB (io), 80 PD24/D24/PUOB (io), 81 PD23/D23/PCO/PCI/SCK1 (io), 82 PD22/D22/PWOA/SCK0 (io), 83 PD21/D21/PVOA/~{IRQ7} (io), 84 PD20/D20/PUOA/~{IRQ6} (io), 85 PD19/D19/~{POE3}/~{IRQ5} (io), 86 PD18/D18/~{POE2}/~{IRQ4} (io), 87 PD17/D17/~{POE1}/~{ADTRG} (io), 90 PD16/D16/~{POE0} (io), 91 PD15/D15/TIOC5B (io), 93 PD14/D14/TIOC5A (io), 94 PD13/D13/TIOC4B (io), 95 PD12/D12/TIOC4A (io), 96 PD11/D11/TIOC2B (io), 97 PD10/D10/TIOC2A (io), 98 PD9/D9/TIOC1B (io), 99 PD8/D8/TIOC1A (io), 100 PD7/D7 (io), 102 PD6/D6 (io), 103 PD5/D5 (io), 104 PD4/D4 (io), 106 PD3/D3 (io), 107 PD2/D2 (io), 108 PD1/D1 (io), 109 PD0/D0 (io), 111 MD0 (in), 112 XTAL (out), 114 EXTAL (in), 115 MD1 (in), 116 MD2 (in), 117 MD3 (in), 119 MD4 (in), 120 FWE (in), 121 MD5 (in), 122 NMI (in), 123 ~{RES} (in), 125 ~{HSTBY} (in), 127 CKIO (io), 130 PLLCAP1 (in), 131 PLLCAP2 (in), 134 CK (out), 136 PA1/~{OE1} (io), 137 PA0/~{OE0} (io), 138 PF3/~{DREQ0}/TIOC0A (io), 139 PF2/~{DRAK0}/TIOC0C (io), 141 PF1/~{DACK0}/TIOC0B (io), 142 PA19/~{BS} (io), 143 PF5/~{DACK1}/RxD1/TIOC2B (io), 144 PF6/~{DRAK1}/TxD1/TIOC2A (io), 145 PF7/~{DREQ1}/~{IRQOUT}/TIOC0D (io), 146 ~{WDTOVF} (out), 149 PH0/DA0 (io), 150 PH1/DA1 (io), 151 PI0/AN0 (in), 152 PI1/AN1 (in), 153 PI2/AN2 (in), 154 PI3/AN3 (in), 155 PI4/AN4 (in), 156 PI5/AN5 (in), 157 PI6/AN6 (in), 158 PI7/AN7 (in), 161 PG31/RxD2 (io), 162 PG30/TxD2 (io), 163 PG29/SCK2 (io), 164 PB7/~{BACK} (io), 165 PB6/~{BREQ} (io), 167 PE23/~{IRQ7}/PWOB (io), 168 PE22/~{IRQ6}/PVOB (io), 169 PE21/~{IRQ5}/PUOB (io), 170 PE20/~{IRQ4}/PCO/PCI (io), 171 PE19/~{IRQ3}/PWOA (io), 172 PE18/~{IRQ2}/PVOA (io), 174 PE17/IRQ1/PUOA/SCK0 (io), 175 PE16/~{IRQ0}/SCK1/~{AH} (io), 176 PE15/~{IRQ7} (io)
part B pins: 5 PVCC (power), 17 VCC (power), 26 VCC (power), 39 VCC (power), 48 VCC (power), 58 VCC (power), 70 VCC (power), 79 VCC (power), 92 VCC (power), 105 VCC (power), 118 VCC (power), 126 VCC (power), 129 PLLVCC (power), 140 VCC (power), 159 AVCC (power), 160 PVCC (power), 173 PVCC (power)
part C pins: 1 PVSS (power), 10 VSS (power), 13 VSS (power), 21 VSS (power), 25 VSS (power), 31 VSS (power), 38 VSS (power), 45 VSS (power), 54 VSS (power), 64 VSS (power), 76 VSS (power), 88 VSS (power), 89 VSS (power), 101 VSS (power), 110 VSS (power), 113 VSS (power), 124 VSS (power), 128 VSS (power), 132 PLLVSS (power), 133 VSS (power), 135 VSS (power), 147 VSS (power), 148 AVSS (power), 166 PVSS (power)

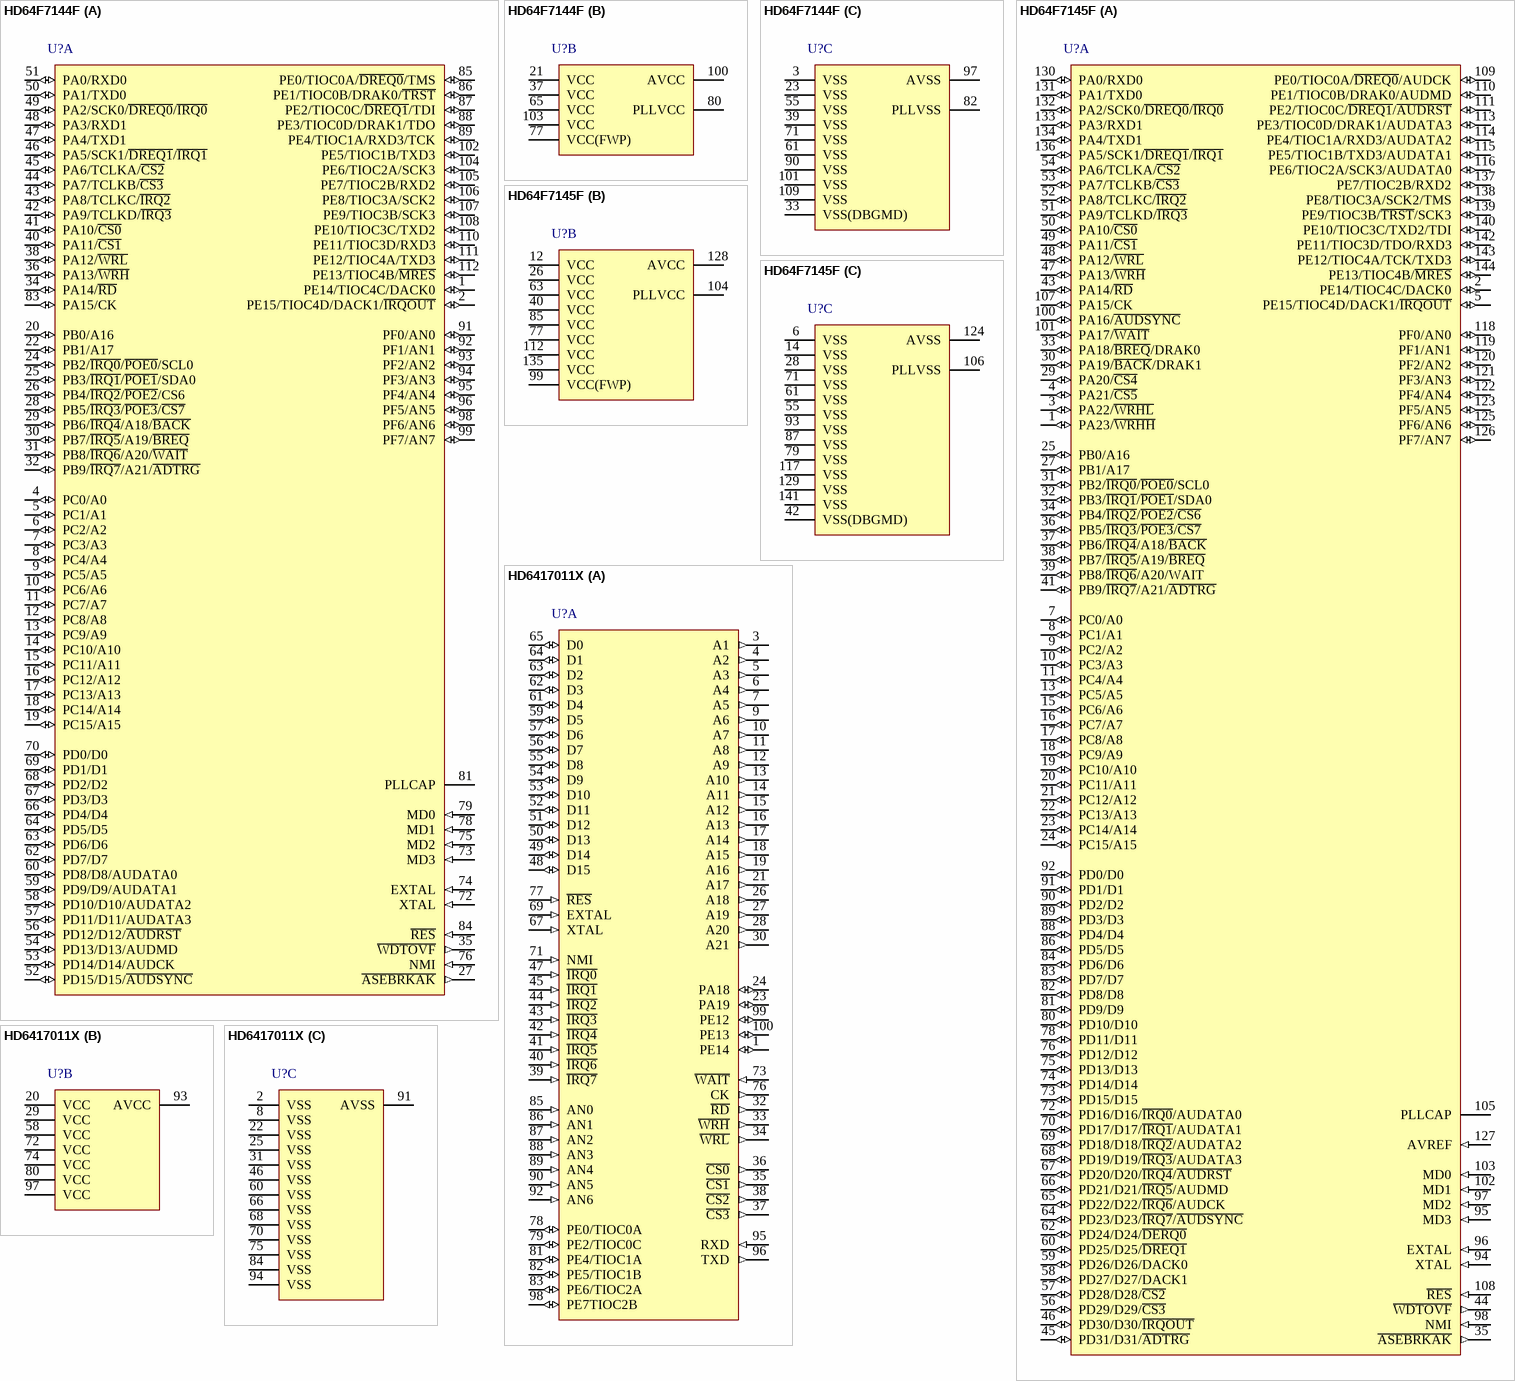
[diagram p4: symbols HD64F7144F to HD6417011X]

## HD64F7144F
designator U?
32-Bit RISC Microcomputer, SH7144 Series, SH-2 core, 50MHz, 256K ROM, 8K RAM, PRQP0112JB-A (FP-112B) Package, -20 to 75/-40 to 85°C; Published: 28-Aug-2009; DatasheetVersion: Rev.4.00, Mar-2008; PackageVersion: Sep-2005; PackageReference: PRQP0112JB-A; Publisher: Altium Limited; PackageDescription: 112-Pin Plastic Quad Flat Pack, 20 x 20 x 2.7 mm Body, 0.65 mm Pitch; Code_JEITA: P-QFP112-20x20-0.65; ComponentLink1Description: Manufacturer Link; ComponentLink1URL: http://www.renesas.com/fmwk.jsp?cnt=sh7144_root.jsp&fp=/products/mpumcu/superh_family/sh7144_series/sh7144_group/; ComponentLink2Description: Datasheet; ComponentLink2URL: http://documentation.renesas.com/eng/products/mpumcu/rej09b0108_sh7144.pdf; ComponentLink3Description: Packaging Specification; ComponentLink3URL: http://sg.renesas.com/media/products/common_info/package/pdf/ic/code/prqp0112jb_a.pdf
footprint PRQP0112JB-A_N (QFP, 112-Leads, Body 20x20mm, Pitch 0.65mm, IPC Medium Density)
footprint PRQP0112JB-A_L (QFP, 112-Leads, Body 20x20mm, Pitch 0.65mm, IPC High Density)
footprint PRQP0112JB-A_M (QFP, 112-Leads, Body 20x20mm, Pitch 0.65mm, IPC Low Density)
part A pins: 1 PE14/TIOC4C/DACK0 (io), 2 PE15/TIOC4D/DACK1/~{IRQOUT} (io), 4 PC0/A0 (io), 5 PC1/A1 (io), 6 PC2/A2 (io), 7 PC3/A3 (io), 8 PC4/A4 (io), 9 PC5/A5 (io), 10 PC6/A6 (io), 11 PC7/A7 (io), 12 PC8/A8 (io), 13 PC9/A9 (io), 14 PC10/A10 (io), 15 PC11/A11 (io), 16 PC12/A12 (io), 17 PC13/A13 (io), 18 PC14/A14 (io), 19 PC15/A15 (io), 20 PB0/A16 (io), 22 PB1/A17 (io), 24 PB2/~{IRQ0}/~{POE0}/SCL0 (io), 25 PB3/~{IRQ1}/~{POE1}/SDA0 (io), 26 PB4/~{IRQ2}/~{POE2}/CS6 (io), 27 ~{ASEBRKAK} (out), 28 PB5/~{IRQ3}/~{POE3}/~{CS7} (io), 29 PB6/~{IRQ4}/A18/~{BACK} (io), 30 PB7/~{IRQ5}/A19/~{BREQ} (io), 31 PB8/~{IRQ6}/A20/~{WAIT} (io), 32 PB9/~{IRQ7}/A21/~{ADTRG} (io), 34 PA14/~{RD} (io), 35 ~{WDTOVF} (out), 36 PA13/~{WRH} (io), 38 PA12/~{WRL} (io), 40 PA11/~{CS1} (io), 41 PA10/~{CS0} (io), 42 PA9/TCLKD/~{IRQ3} (io), 43 PA8/TCLKC/~{IRQ2} (io), 44 PA7/TCLKB/~{CS3} (io), 45 PA6/TCLKA/~{CS2} (io), 46 PA5/SCK1/~{DREQ1}/~{IRQ1} (io), 47 PA4/TXD1 (io), 48 PA3/RXD1 (io), 49 PA2/SCK0/~{DREQ0}/~{IRQ0} (io), 50 PA1/TXD0 (io), 51 PA0/RXD0 (io), 52 PD15/D15/~{AUDSYNC} (io), 53 PD14/D14/AUDCK (io), 54 PD13/D13/AUDMD (io), 56 PD12/D12/~{AUDRST} (io), 57 PD11/D11/AUDATA3 (io), 58 PD10/D10/AUDATA2 (io), 59 PD9/D9/AUDATA1 (io), 60 PD8/D8/AUDATA0 (io), 62 PD7/D7 (io), 63 PD6/D6 (io), 64 PD5/D5 (io), 66 PD4/D4 (io), 67 PD3/D3 (io), 68 PD2/D2 (io), 69 PD1/D1 (io), 70 PD0/D0 (io), 72 XTAL (in), 73 MD3 (in), 74 EXTAL (in), 75 MD2 (in), 76 NMI (in), 78 MD1 (in), 79 MD0 (in), 81 PLLCAP, 83 PA15/CK (io), 84 ~{RES} (in), 85 PE0/TIOC0A/~{DREQ0}/TMS (io), 86 PE1/TIOC0B/DRAK0/~{TRST} (io), 87 PE2/TIOC0C/~{DREQ1}/TDI (io), 88 PE3/TIOC0D/DRAK1/TDO (io), 89 PE4/TIOC1A/RXD3/TCK (io), 91 PF0/AN0 (io), 92 PF1/AN1 (io), 93 PF2/AN2 (io), 94 PF3/AN3 (io), 95 PF4/AN4 (io), 96 PF5/AN5 (io), 98 PF6/AN6 (io), 99 PF7/AN7 (io), 102 PE5/TIOC1B/TXD3 (io), 104 PE6/TIOC2A/SCK3 (io), 105 PE7/TIOC2B/RXD2 (io), 106 PE8/TIOC3A/SCK2 (io), 107 PE9/TIOC3B/SCK3 (io), 108 PE10/TIOC3C/TXD2 (io), 110 PE11/TIOC3D/RXD3 (io), 111 PE12/TIOC4A/TXD3 (io), 112 PE13/TIOC4B/~{MRES} (io)
part B pins: 21 VCC (power), 37 VCC (power), 65 VCC (power), 77 VCC(FWP) (power), 80 PLLVCC (power), 100 AVCC (power), 103 VCC (power)
part C pins: 3 VSS (power), 23 VSS (power), 33 VSS(DBGMD) (power), 39 VSS (power), 55 VSS (power), 61 VSS (power), 71 VSS (power), 82 PLLVSS (power), 90 VSS (power), 97 AVSS (power), 101 VSS (power), 109 VSS (power)

## HD64F7145F
designator U?
32-Bit RISC Microcomputer, SH7144 Series, SH-2 core, 50MHz, 256K ROM, 8K RAM, PLQP0144KB-A (FP-144F) Package, -20 to 75/-40 to 85°C; Published: 28-Aug-2009; DatasheetVersion: Rev.4.00, Mar-2008; PackageVersion: Sep-2005; PackageReference: PLQP0144KB-A; Publisher: Altium Limited; PackageDescription: 144-Pin Plastic Low Profile QFP, 20 x 20 x 1.4 mm Body, 0.5 mm Pitch; Code_JEITA: P-LQFP144-20x20-0.50; Code_IPC: SQFP50P2200X2200-144; ComponentLink1Description: Manufacturer Link; ComponentLink1URL: http://www.renesas.com/fmwk.jsp?cnt=sh7144_root.jsp&fp=/products/mpumcu/superh_family/sh7144_series/sh7144_group/; ComponentLink2Description: Datasheet; ComponentLink2URL: http://documentation.renesas.com/eng/products/mpumcu/rej09b0108_sh7144.pdf; ComponentLink3Description: Packaging Specification; ComponentLink3URL: http://sg.renesas.com/media/products/common_info/package/pdf/ic/code/plqp0144kb_a.pdf
footprint PLQP0144KB-A_N (Shrink QFP, 144-Leads, Body 20x20mm, Pitch 0.5mm, IPC Medium Density)
footprint PLQP0144KB-A_L (Shrink QFP, 144-Leads, Body 20x20mm, Pitch 0.5mm, IPC High Density)
footprint PLQP0144KB-A_M (Shrink QFP, 144-Leads, Body 20x20mm, Pitch 0.5mm, IPC Low Density)
part A pins: 1 PA23/~{WRHH} (io), 2 PE14/TIOC4C/DACK0 (io), 3 PA22/~{WRHL} (io), 4 PA21/~{CS5} (io), 5 PE15/TIOC4D/DACK1/~{IRQOUT} (io), 7 PC0/A0 (io), 8 PC1/A1 (io), 9 PC2/A2 (io), 10 PC3/A3 (io), 11 PC4/A4 (io), 13 PC5/A5 (io), 15 PC6/A6 (io), 16 PC7/A7 (io), 17 PC8/A8 (io), 18 PC9/A9 (io), 19 PC10/A10 (io), 20 PC11/A11 (io), 21 PC12/A12 (io), 22 PC13/A13 (io), 23 PC14/A14 (io), 24 PC15/A15 (io), 25 PB0/A16 (io), 27 PB1/A17 (io), 29 PA20/~{CS4} (io), 30 PA19/~{BACK}/DRAK1 (io), 31 PB2/~{IRQ0}/~{POE0}/SCL0 (io), 32 PB3/~{IRQ1}/~{POE1}/SDA0 (io), 33 PA18/~{BREQ}/DRAK0 (io), 34 PB4/~{IRQ2}/~{POE2}/~{CS6} (io), 35 ~{ASEBRKAK} (out), 36 PB5/~{IRQ3}/~{POE3}/~{CS7} (io), 37 PB6/~{IRQ4}/A18/~{BACK} (io), 38 PB7/~{IRQ5}/A19/~{BREQ} (io), 39 PB8/~{IRQ6}/A20/WAIT (io), 41 PB9/~{IRQ7}/A21/~{ADTRG} (io), 43 PA14/~{RD} (io), 44 ~{WDTOVF} (out), 45 PD31/D31/~{ADTRG} (io), 46 PD30/D30/~{IRQOUT} (io), 47 PA13/~{WRH} (io), 48 PA12/~{WRL} (io), 49 PA11/~{CS1} (io), 50 PA10/~{CS0} (io), 51 PA9/TCLKD/~{IRQ3} (io), 52 PA8/TCLKC/~{IRQ2} (io), 53 PA7/TCLKB/~{CS3} (io), 54 PA6/TCLKA/~{CS2} (io), 56 PD29/D29/~{CS3} (io), 57 PD28/D28/~{CS2} (io), 58 PD27/D27/DACK1 (io), 59 PD26/D26/DACK0 (io), 60 PD25/D25/~{DREQ1} (io), 62 PD24/D24/~{DERQ0} (io), 64 PD23/D23/~{IRQ7}/~{AUDSYNC} (io), 65 PD22/D22/~{IRQ6}/AUDCK (io), 66 PD21/D21/~{IRQ5}/AUDMD (io), 67 PD20/D20/~{IRQ4}/~{AUDRST} (io), 68 PD19/D19/~{IRQ3}/AUDATA3 (io), 69 PD18/D18/~{IRQ2}/AUDATA2 (io), 70 PD17/D17/~{IRQ1}/AUDATA1 (io), 72 PD16/D16/~{IRQ0}/AUDATA0 (io), 73 PD15/D15 (io), 74 PD14/D14 (io), 75 PD13/D13 (io), 76 PD12/D12 (io), 78 PD11/D11 (io), 80 PD10/D10 (io), 81 PD9/D9 (io), 82 PD8/D8 (io), 83 PD7/D7 (io), 84 PD6/D6 (io), 86 PD5/D5 (io), 88 PD4/D4 (io), 89 PD3/D3 (io), 90 PD2/D2 (io), 91 PD1/D1 (io), 92 PD0/D0 (io), 94 XTAL (in), 95 MD3 (in), 96 EXTAL (in), 97 MD2 (in), 98 NMI (in), 100 PA16/~{AUDSYNC} (io), 101 PA17/~{WAIT} (io), 102 MD1 (in), 103 MD0 (in), 105 PLLCAP, 107 PA15/CK (io), 108 ~{RES} (in), 109 PE0/TIOC0A/~{DREQ0}/AUDCK (io), 110 PE1/TIOC0B/DRAK0/AUDMD (io), 111 PE2/TIOC0C/~{DREQ1}/~{AUDRST} (io), 113 PE3/TIOC0D/DRAK1/AUDATA3 (io), 114 PE4/TIOC1A/RXD3/AUDATA2 (io), 115 PE5/TIOC1B/TXD3/AUDATA1 (io), 116 PE6/TIOC2A/SCK3/AUDATA0 (io), 118 PF0/AN0 (io), 119 PF1/AN1 (io), 120 PF2/AN2 (io), 121 PF3/AN3 (io), 122 PF4/AN4 (io), 123 PF5/AN5 (io), 125 PF6/AN6 (io), 126 PF7/AN7 (io), 127 AVREF (in), 130 PA0/RXD0 (io), 131 PA1/TXD0 (io), 132 PA2/SCK0/~{DREQ0}/~{IRQ0} (io), 133 PA3/RXD1 (io), 134 PA4/TXD1 (io), 136 PA5/SCK1/~{DREQ1}/~{IRQ1} (io), 137 PE7/TIOC2B/RXD2 (io), 138 PE8/TIOC3A/SCK2/TMS (io), 139 PE9/TIOC3B/~{TRST}/SCK3 (io), 140 PE10/TIOC3C/TXD2/TDI (io), 142 PE11/TIOC3D/TDO/RXD3 (io), 143 PE12/TIOC4A/TCK/TXD3 (io), 144 PE13/TIOC4B/~{MRES} (io)
part B pins: 12 VCC (power), 26 VCC (power), 40 VCC (power), 63 VCC (power), 77 VCC (power), 85 VCC (power), 99 VCC(FWP) (power), 104 PLLVCC (power), 112 VCC (power), 128 AVCC (power), 135 VCC (power)
part C pins: 6 VSS (power), 14 VSS (power), 28 VSS (power), 42 VSS(DBGMD) (power), 55 VSS (power), 61 VSS (power), 71 VSS (power), 79 VSS (power), 87 VSS (power), 93 VSS (power), 106 PLLVSS (power), 117 VSS (power), 124 AVSS (power), 129 VSS (power), 141 VSS (power)

## HD6417011X
designator U?
32-Bit RISC Microcomputer, SH7010 Series, SH-2 core, 20MHz, 4K RAM, PTQP0100KA-A (TFP-100B) Package, -20 to 75°C; Published: 28-Aug-2009; DatasheetVersion: Rev.1.0, Apr-2003; PackageVersion: Sep-2005; PackageReference: PTQP0100KA-A; Publisher: Altium Limited; PackageDescription: 100-Pin Plastic Thin Quad Flat Pack, 14 x 14 x 1.0 mm Body, 0.5 mm Pitch; Code_JEITA: P-TQFP100-14x14-0.50; ComponentLink1Description: Manufacturer Link; ComponentLink1URL: http://www.renesas.com/fmwk.jsp?cnt=sh7011_root.jsp&fp=/products/mpumcu/superh_family/sh7010_series/sh7011_group/; ComponentLink2Description: Datasheet; ComponentLink2URL: http://documentation.renesas.com/eng/products/mpumcu/e602169_sh7011.pdf; ComponentLink3Description: Packaging Specification; ComponentLink3URL: http://sg.renesas.com/media/products/common_info/package/pdf/ic/code/ptqp0100ka_a.pdf
footprint PTQP0100KA-A_N (Thin QFP, 100-Leads, Body 14x14mm, Pitch 0.5mm, IPC Medium Density)
footprint PTQP0100KA-A_L (Thin QFP, 100-Leads, Body 14x14mm, Pitch 0.5mm, IPC High Density)
footprint PTQP0100KA-A_M (Thin QFP, 100-Leads, Body 14x14mm, Pitch 0.5mm, IPC Low Density)
part A pins: 1 PE14 (io), 3 A1 (out), 4 A2 (out), 5 A3 (out), 6 A4 (out), 7 A5 (out), 9 A6 (out), 10 A7 (out), 11 A8 (out), 12 A9 (out), 13 A10 (out), 14 A11 (out), 15 A12 (out), 16 A13 (out), 17 A14 (out), 18 A15 (out), 19 A16 (out), 21 A17 (out), 23 PA19 (io), 24 PA18 (io), 26 A18 (out), 27 A19 (out), 28 A20 (out), 30 A21 (out), 32 ~{RD} (out), 33 ~{WRH} (out), 34 ~{WRL} (out), 35 ~{CS1} (out), 36 ~{CS0} (out), 37 ~{CS3} (out), 38 ~{CS2} (out), 39 ~{IRQ7} (in), 40 ~{IRQ6} (in), 41 ~{IRQ5} (in), 42 ~{IRQ4} (in), 43 ~{IRQ3} (in), 44 ~{IRQ2} (in), 45 ~{IRQ1} (in), 47 ~{IRQ0} (in), 48 D15 (io), 49 D14 (io), 50 D13 (io), 51 D12 (io), 52 D11 (io), 53 D10 (io), 54 D9 (io), 55 D8 (io), 56 D7 (io), 57 D6 (io), 59 D5 (io), 61 D4 (io), 62 D3 (io), 63 D2 (io), 64 D1 (io), 65 D0 (io), 67 XTAL (in), 69 EXTAL (in), 71 NMI (in), 73 ~{WAIT} (in), 76 CK (out), 77 ~{RES} (in), 78 PE0/TIOC0A (io), 79 PE2/TIOC0C (io), 81 PE4/TIOC1A (io), 82 PE5/TIOC1B (io), 83 PE6/TIOC2A (io), 85 AN0 (in), 86 AN1 (in), 87 AN2 (in), 88 AN3 (in), 89 AN4 (in), 90 AN5 (in), 92 AN6 (in), 95 RXD (in), 96 TXD (out), 98 PE7TIOC2B (io), 99 PE12 (io), 100 PE13 (io)
part B pins: 20 VCC (power), 29 VCC (power), 58 VCC (power), 72 VCC (power), 74 VCC (power), 80 VCC (power), 93 AVCC (power), 97 VCC (power)
part C pins: 2 VSS (power), 8 VSS (power), 22 VSS (power), 25 VSS (power), 31 VSS (power), 46 VSS (power), 60 VSS (power), 66 VSS (power), 68 VSS (power), 70 VSS (power), 75 VSS (power), 84 VSS (power), 91 AVSS (power), 94 VSS (power)

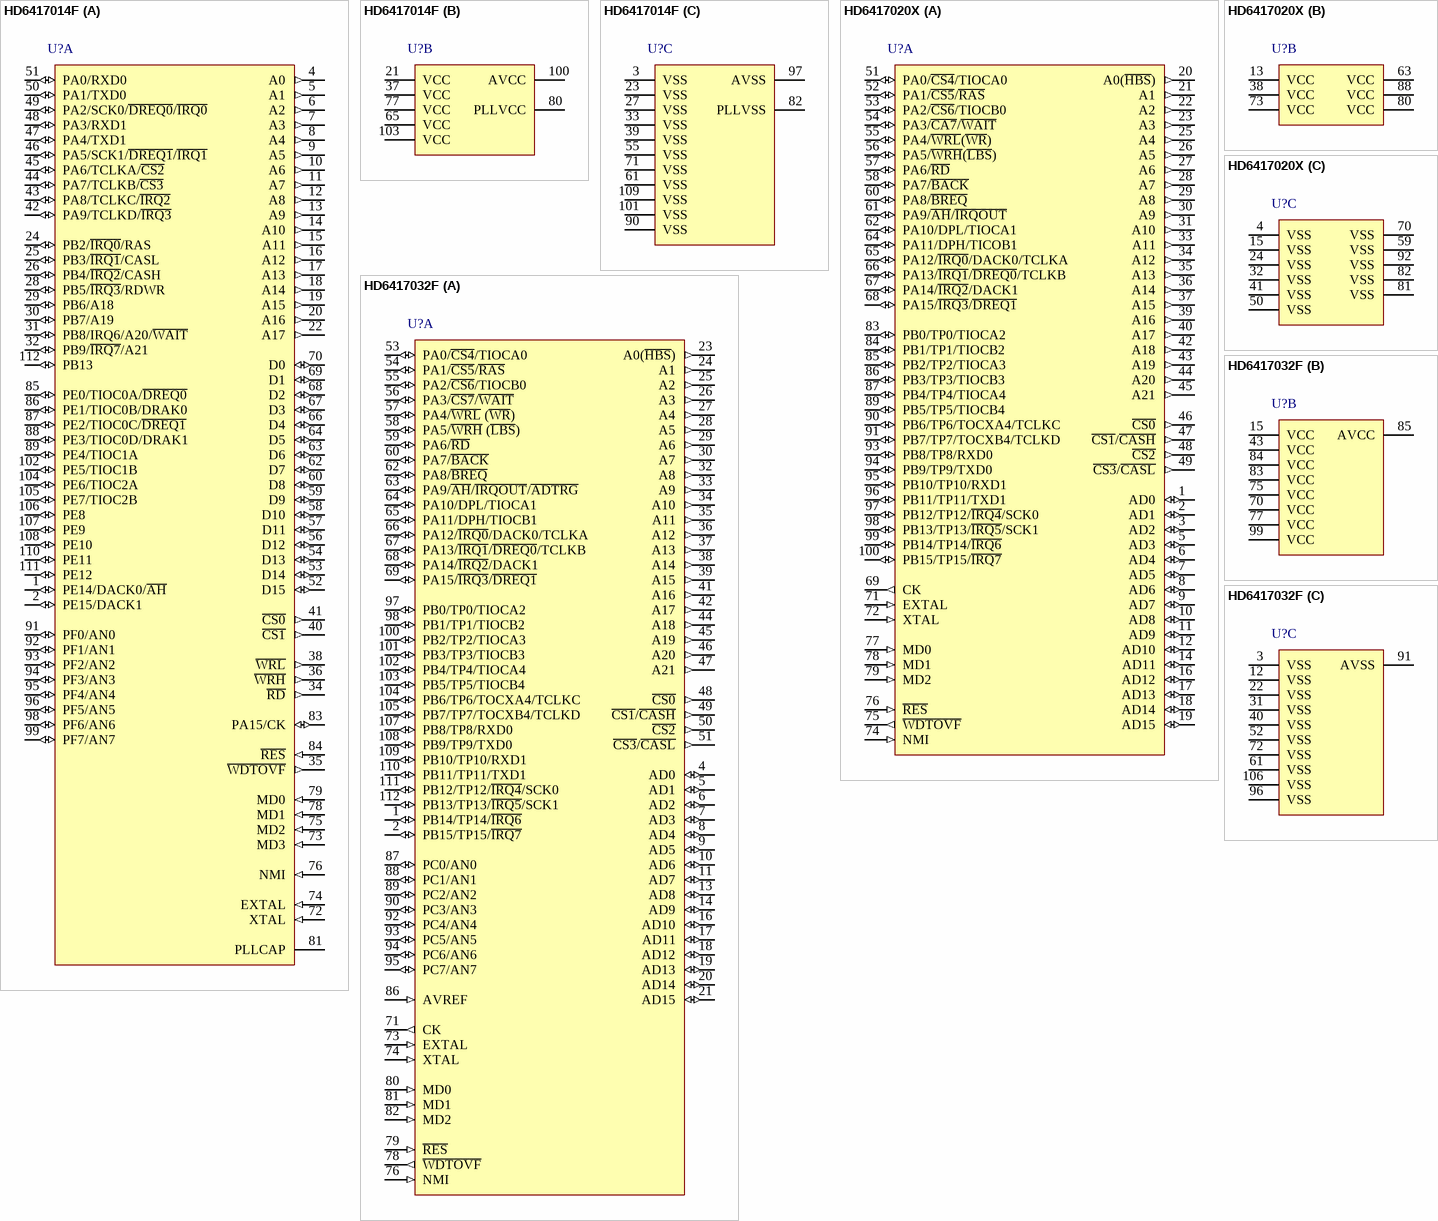
[diagram p5: symbols HD6417014F to HD6417032F]

## HD6417014F
designator U?
32-Bit RISC Microcomputer, SH7010 Series, SH-2 core, 28.7MHz, 3K(1K) RAM, PRQP0112JA-A (FP-112) Package, -20 to 75°C; Published: 28-Aug-2009; DatasheetVersion: Rev.5.00, Sep-2007; PackageVersion: Sep-2005; PackageReference: PRQP0112JA-A; Publisher: Altium Limited; PackageDescription: 112-Pin Plastic Quad Flat Pack, 20 x 20 x 2.7 mm Body, 0.65 mm Pitch; Code_JEITA: P-QFP112-20x20-0.65; ComponentLink1Description: Manufacturer Link; ComponentLink1URL: http://www.renesas.com/fmwk.jsp?cnt=sh7014_root.jsp&fp=/products/mpumcu/superh_family/sh7010_series/sh7014_group/; ComponentLink2Description: Datasheet; ComponentLink2URL: http://documentation.renesas.com/eng/products/mpumcu/rej09b0398_7014hm.pdf; ComponentLink3Description: Packaging Specification; ComponentLink3URL: http://sg.renesas.com/media/products/common_info/package/pdf/ic/code/prqp0112ja_a.pdf
footprint PRQP0112JA-A_N (QFP, 112-Leads, Body 20x20mm, Pitch 0.65mm, IPC Medium Density)
footprint PRQP0112JA-A_L (QFP, 112-Leads, Body 20x20mm, Pitch 0.65mm, IPC High Density)
footprint PRQP0112JA-A_M (QFP, 112-Leads, Body 20x20mm, Pitch 0.65mm, IPC Low Density)
part A pins: 1 PE14/DACK0/~{AH} (io), 2 PE15/DACK1 (io), 4 A0 (out), 5 A1 (out), 6 A2 (out), 7 A3 (out), 8 A4 (out), 9 A5 (out), 10 A6 (out), 11 A7 (out), 12 A8 (out), 13 A9 (out), 14 A10 (out), 15 A11 (out), 16 A12 (out), 17 A13 (out), 18 A14 (out), 19 A15 (out), 20 A16 (out), 22 A17 (out), 24 PB2/~{IRQ0}/RAS (io), 25 PB3/~{IRQ1}/CASL (io), 26 PB4/~{IRQ2}/CASH (io), 28 PB5/~{IRQ3}/RDWR (io), 29 PB6/A18 (io), 30 PB7/A19 (io), 31 PB8/IRQ6/A20/~{WAIT} (io), 32 PB9/~{IRQ7}/A21 (io), 34 ~{RD} (out), 35 ~{WDTOVF} (out), 36 ~{WRH} (out), 38 ~{WRL} (out), 40 ~{CS1} (out), 41 ~{CS0} (out), 42 PA9/TCLKD/~{IRQ3} (io), 43 PA8/TCLKC/~{IRQ2} (io), 44 PA7/TCLKB/~{CS3} (io), 45 PA6/TCLKA/~{CS2} (io), 46 PA5/SCK1/~{DREQ1}/~{IRQ1} (io), 47 PA4/TXD1 (io), 48 PA3/RXD1 (io), 49 PA2/SCK0/~{DREQ0}/~{IRQ0} (io), 50 PA1/TXD0 (io), 51 PA0/RXD0 (io), 52 D15 (io), 53 D14 (io), 54 D13 (io), 56 D12 (io), 57 D11 (io), 58 D10 (io), 59 D9 (io), 60 D8 (io), 62 D7 (io), 63 D6 (io), 64 D5 (io), 66 D4 (io), 67 D3 (io), 68 D2 (io), 69 D1 (io), 70 D0 (io), 72 XTAL (in), 73 MD3 (in), 74 EXTAL (in), 75 MD2 (in), 76 NMI (in), 78 MD1 (in), 79 MD0 (in), 81 PLLCAP, 83 PA15/CK (io), 84 ~{RES} (in), 85 PE0/TIOC0A/~{DREQ0} (io), 86 PE1/TIOC0B/DRAK0 (io), 87 PE2/TIOC0C/~{DREQ1} (io), 88 PE3/TIOC0D/DRAK1 (io), 89 PE4/TIOC1A (io), 91 PF0/AN0 (io), 92 PF1/AN1 (io), 93 PF2/AN2 (io), 94 PF3/AN3 (io), 95 PF4/AN4 (io), 96 PF5/AN5 (io), 98 PF6/AN6 (io), 99 PF7/AN7 (io), 102 PE5/TIOC1B (io), 104 PE6/TIOC2A (io), 105 PE7/TIOC2B (io), 106 PE8 (io), 107 PE9 (io), 108 PE10 (io), 110 PE11 (io), 111 PE12 (io), 112 PB13 (io)
part B pins: 21 VCC (power), 37 VCC (power), 65 VCC (power), 77 VCC (power), 80 PLLVCC (power), 100 AVCC (power), 103 VCC (power)
part C pins: 3 VSS (power), 23 VSS (power), 27 VSS (power), 33 VSS (power), 39 VSS (power), 55 VSS (power), 61 VSS (power), 71 VSS (power), 82 PLLVSS (power), 90 VSS (power), 97 AVSS (power), 101 VSS (power), 109 VSS (power)